# Altium schematic symbol library BWRC.SchLib: 201 symbols (part 4 of 6)
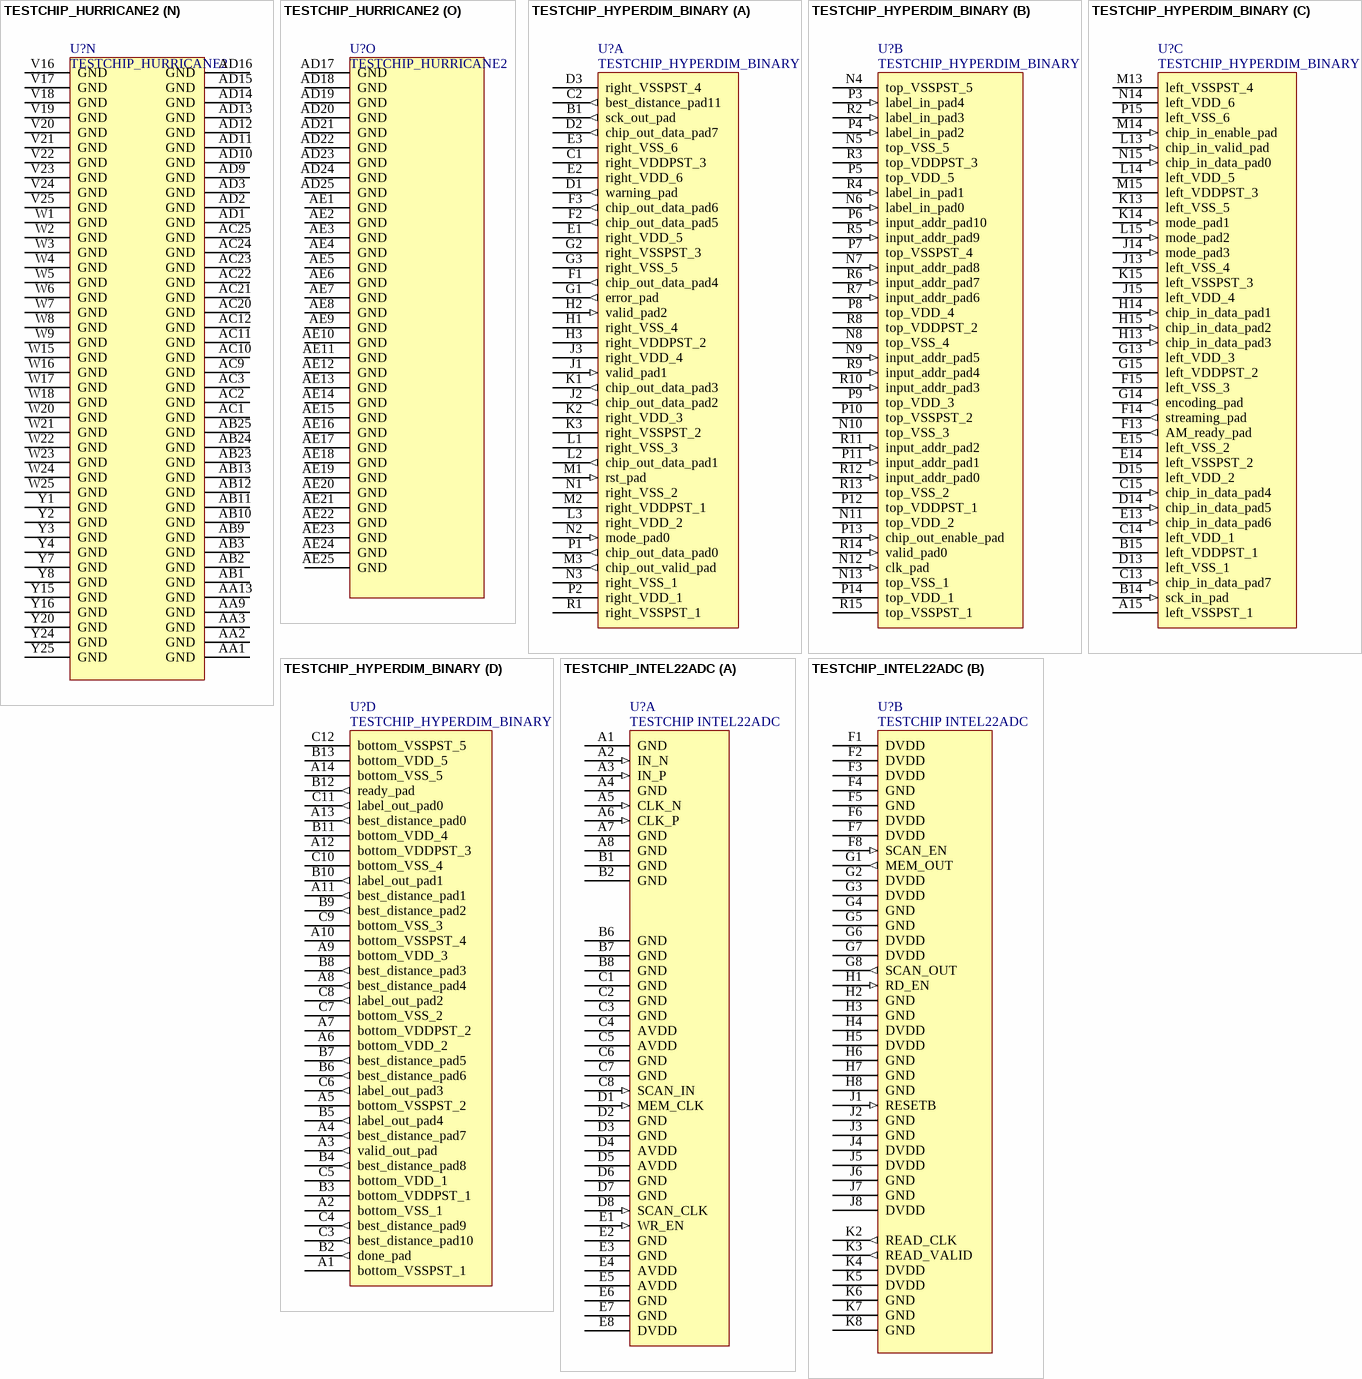
[diagram p34: symbols TESTCHIP_HURRICANE2 to TESTCHIP_INTEL22ADC]

## TESTCHIP_HURRICANE2
designator U?
TESTCHIP HURRICANE2
part A pins: C8 HBWIFIREF[0] (in), C18 HBWIFVCM[0] (in), E12 HBWIFRX_1_P (in), E13 HBWIFRX_1_N (in), F10 HBWIFRX_3_N (in), F11 HBWIFTX_1_P (out), F12 HBWIFTX_1_N (out), F14 HBWIFRX_0_P (in), F15 HBWIFRX_0_N (in), G10 HBWIFRX_3_P (in), G11 HBWIFTX_2_P (out), G12 HBWIFTX_2_N (out), G13 HBWIFTX_0_P (out), G14 HBWIFTX_0_N (out), H10 HBWIFTX_3_P (out), H11 HBWIFTX_3_N (out), H12 HBWIFRX_2_N (in), H13 HBWIFRX_2_P (in)
part B pins: AA8 HBWIFVCM[1] (in), AA10 HBWIFRX_4_P (in), AA11 HBWIFRX_4_N (in), AB6 HBWIFIREF[1] (in), V10 HBWIFTX_4_P (out), V11 HBWIFTX_5_P (out), V12 HBWIFTX_5_N (out), V13 HBWIFRX_7_P (in), V14 HBWIFRX_7_N (in), W10 HBWIFTX_4_N (out), W11 HBWIFRX_5_P (in), W12 HBWIFRX_5_N (in), W13 HBWIFTX_7_P (out), W14 HBWIFTX_7_N (out), Y11 HBWIFTX_6_P (out), Y12 HBWIFTX_6_N (out), Y13 HBWIFRX_6_P (in), Y14 HBWIFRX_6_N (in)
part C pins: C4 JTAG_TDI (in), C5 JTAG_DRV_TDO (out), C6 JTAG_TMS (in), D5 JTAG_TDO (out), E4 JTAG_TCK (in), E5 JTAG_TRST (in)
part D pins: AA5 SERIAL_OUT_BITS[2] (out), AA7 SERIAL_OUT_BITS[3] (out), AB4 SERIAL_OUT_BITS[5] (out), AB5 SERIAL_OUT_BITS[1] (out), AB7 SERIAL_OUT_READY (in), AC5 SERIAL_OUT_BITS[0] (out), AC8 SERIAL_OUT_VALID (out), AD4 SERIAL_OUT_BITS[6] (out), AD6 SERIAL_OUT_BITS[7] (out), AD7 SERIAL_IN_READY (out), AD8 SERIAL_IN_VALID (in), C16 SERIAL_IN_BITS[4] (in), C19 HOST_CLOCK (out), C20 SERIAL_IN_BITS[0] (in), C21 SERIAL_IN_BITS[2] (in), D7 SERIAL_IN_BITS[6] (in), D8 SERIAL_IN_BITS[3] (in), E6 SERIAL_IN_BITS[7] (in), E8 SERIAL_IN_BITS[1] (in), F8 SERIAL_IN_BITS[5] (in), Y5 SERIAL_OUT_BITS[4] (out)
part E pins: AA4 RESET (in), AA6 OUT_VREF_DAC_OUT_0 (out), AB8 MEAS_DCDC_CLKOUT (out), AC4 CLKIN_SLOW_CLK (in), AC7 SYSTEM_CLK_SEL[0] (in), AD5 MEAS_CASSIA_CLKOUT (out), C7 REFS_VREF_1 (in), C17 CLKIN_LVSS (in), D4 SYSTEM_CLK_SEL[1] (in), D6 OUT_VREF_DAC_OUT_1 (out), F4 SYSTEM_CLK_SEL[2] (in), G8 CLKIN_LVDS_1_P (in), G9 CLKIN_LVDS_1_N (in), Y6 REFS_VREF_0 (in), Y9 CLKIN_LVDS_0_N (in), Y10 CLKIN_LVDS_0_P (in)
part F pins: AA18 PAD_MEM_DQS_P[2] (io), AA19 PAD_MEM_DATA[18] (io), AA20 PAD_MEM_DATA[20] (io), AA21 PAD_MEM_BANK[2] (out), AA22 PAD_MEM_BANK[0] (out), AA23 PAD_MEM_ADDRESS[2] (out), AA24 PAD_CAL_0 (in), AA25 PAD_VREFCA (power), AB14 PAD_MEM_DATA[25] (io), AB15 PAD_MEM_DM[3] (io), AB16 PAD_MEM_DATA[27] (io), AB17 PAD_MEM_DATA[19] (io), AB18 PAD_MEM_DATA[17] (io), AB19 PAD_MEM_DQS_P[3] (io), AB20 PAD_MEM_DQS_M[2] (io), AB21 PAD_MEM_WE_N (out), AB22 PAD_MEM_ADDRESS[4] (out), AC13 PAD_VREFDQ[3] (io), AC14 PAD_MEM_DATA[24] (io), AC15 PAD_MEM_DATA[31] (io), AC16 PAD_MEM_DATA[29] (io), AC17 PAD_MEM_DATA[23] (io), AC18 PAD_MEM_DATA[21] (io), AC19 PAD_VREFDQ[2] (io), C22 PAD_MEM_DATA[9] (io), D17 PAD_MEM_DATA[4] (io), D18 PAD_MEM_ADDRESS[7] (out), D19 PAD_MEM_DATA[1] (io), D20 PAD_MEM_DATA[3] (io), D21 PAD_MEM_DATA[7] (io), D22 PAD_MEM_DATA[13] (io), E14 PAD_VREFDQ[0] (io), E18 PAD_MEM_DATA[5] (io), E19 PAD_MEM_DATA[11] (io), E20 PAD_MEM_DQS_M[1] (io), E21 PAD_MEM_DATA[10] (io), E22 PAD_MEM_ADDRESS[9] (out), E23 PAD_MEM_ADDRESS[3] (out), F17 PAD_MEM_DATA[15] (io), F18 PAD_VREFDQ[1] (io), F19 PAD_MEM_DATA[12] (io), F20 PAD_MEM_BANK[1] (out), F21 PAD_MEM_ADDRESS[12] (out), G18 PAD_MEM_DM[1] (io), G19 PAD_MEM_DATA[8] (io), G20 PAD_MEM_ERROR_N[0] (io), G21 PAD_MEM_RAS_N (out), J20 PAD_MEM_DM[0] (io), J21 PAD_MEM_DQS_M[0] (io), K20 PAD_MEM_DQS_P[1] (io), K21 PAD_MEM_DQS_P[0] (io), L20 PAD_MEM_DATA[6] (io), L21 PAD_MEM_DATA[0] (io), L22 PAD_MEM_DATA[2] (io), M20 PAD_MEM_CLK[0] (out), M21 PAD_MEM_CLK_N[0] (out), M22 PAD_MEM_ADDRESS[5] (out), N19 PAD_MEM_ADDRESS[11] (out), N20 PAD_ISOLATION_N (in), N21 PAD_MEM_ADDRESS[1] (out), N22 PAD_MEM_ADDRESS[15] (out), N23 PAD_MEM_DATA[14] (io), P20 PAD_MEM_ADDRESS[8] (out), P21 PAD_MEM_CAS_N (out), P22 PAD_MEM_ADDRESS[13] (out), R23 PAD_MEM_CKE[0] (out), T21 PAD_MEM_DATA[26] (io), T22 PAD_MEM_ADDRESS[14] (out), T23 PAD_MEM_ODT[0] (out), T24 PAD_MEM_CS_N[0] (out), U21 PAD_MEM_DATA[30] (io), U22 PAD_MEM_DATA[28] (io), U23 PAD_MEM_ADDRESS[10] (out), U24 PAD_MEM_RESET_N[0] (out), W19 PAD_MEM_DATA[22] (io), Y17 PAD_MEM_DQS_M[3] (io), Y18 PAD_MEM_DM[2] (io), Y19 PAD_MEM_DATA[16] (io), Y21 PAD_MEM_ADDRESS[0] (out), Y22 PAD_MEM_ADDRESS[6] (out), Y23 PAD_MEM_PARITY_IN (out)
part G pins: C14 VDD_SERDES (power), C15 VDD_SERDES (power), D13 VDD18 (power), D14 VDD18 (power), J4 VDD10 (power), K4 VDD10 (power), L5 VDDLO (power), L6 VDDHI (power), M5 VDDLO (power), M6 VDDHI (power), N6 VDDHI (power), P5 VDDLO (power), P6 VDDHI (power), R4 VDD10 (power), R5 VDDLO (power), T4 VDD10 (power), U4 VDD_SERDES (power), V4 VDD_SERDES (power)
part H pins: AA12 GNDS, AC6 VOUT_ROCKET, E7 VOUT_HWACHA, T5 VDDS, U5 VDDS
part I pins: AA14 VDD18_DDR (power), AA15 VDD18_DDR (power), AA16 VDD10_DDR (power), AA17 VDD10_DDR (power), D15 VDD10_DDR (power), D16 VDD10_DDR (power), E16 VDD18_DDR (power), E17 VDD18_DDR (power)
part J pins: A1 GND (power), A2 GND (power), A3 GND (power), A4 GND (power), A5 GND (power), A6 GND (power), A7 GND (power), A8 GND (power), A9 GND (power), A10 GND (power), A11 GND (power), A12 GND (power), A13 GND (power), A14 GND (power), A15 GND (power), A16 GND (power), A17 GND (power), A18 GND (power), A19 GND (power), A20 GND (power), A21 GND (power), A22 GND (power), A23 GND (power), A24 GND (power), A25 GND (power), B1 GND (power), B2 GND (power), B3 GND (power), B4 GND (power), B5 GND (power), B6 GND (power), B7 GND (power), B8 GND (power), B9 GND (power), B10 GND (power), B11 GND (power), B12 GND (power), B13 GND (power), B14 GND (power), B15 GND (power), B16 GND (power), B17 GND (power), B18 GND (power), B19 GND (power), B20 GND (power), B21 GND (power), B22 GND (power), B23 GND (power), B24 GND (power), B25 GND (power), C1 GND (power), C2 GND (power), C3 GND (power), C9 GND (power), C10 GND (power), C11 GND (power), C12 GND (power), C13 GND (power), C23 GND (power), C24 GND (power), C25 GND (power), D1 GND (power), D2 GND (power), D3 GND (power), D9 GND (power), D10 GND (power), D11 GND (power), D12 GND (power), D23 GND (power), D24 GND (power), D25 GND (power), E1 GND (power), E2 GND (power), E3 GND (power), E9 GND (power), E10 GND (power), E11 GND (power), E15 GND (power), E24 GND (power), E25 GND (power)
part K pins: F1 GND (power), F2 GND (power), F3 GND (power), F5 GND (power), F6 GND (power), F7 GND (power), F9 GND (power), F13 GND (power), F16 GND (power), F22 GND (power), F23 GND (power), F24 GND (power), F25 GND (power), G1 GND (power), G2 GND (power), G3 GND (power), G4 GND (power), G5 GND (power), G6 GND (power), G7 GND (power), G15 GND (power), G16 GND (power), G17 GND (power), G22 GND (power), G23 GND (power), G24 GND (power), G25 GND (power), H1 GND (power), H2 GND (power), H3 GND (power), H4 GND (power), H5 GND (power), H6 GND (power), H7 GND (power), H8 GND (power), H9 GND (power), H14 GND (power), H15 GND (power), H16 GND (power), H17 GND (power), H18 GND (power), H19 GND (power), H20 GND (power), H21 GND (power), H22 GND (power), H23 GND (power), H24 GND (power), H25 GND (power), J1 GND (power), J2 GND (power), J3 GND (power), J5 GND (power), J6 GND (power), J7 GND (power), J8 GND (power), J9 GND (power), J10 GND (power), J11 GND (power), J12 GND (power), J13 GND (power), J14 GND (power), J15 GND (power), J16 GND (power), J17 GND (power), J18 GND (power), J19 GND (power), J22 GND (power), J23 GND (power), J24 GND (power), J25 GND (power), K1 GND (power), K2 GND (power), K3 GND (power), K5 GND (power), K6 GND (power), K7 GND (power), K8 GND (power), K9 GND (power), K10 GND (power), K11 GND (power)
part L pins: K12 GND (power), K13 GND (power), K14 GND (power), K15 GND (power), K16 GND (power), K17 GND (power), K18 GND (power), K19 GND (power), K22 GND (power), K23 GND (power), K24 GND (power), K25 GND (power), L1 GND (power), L2 GND (power), L3 GND (power), L4 GND (power), L7 GND (power), L8 GND (power), L9 GND (power), L10 GND (power), L11 GND (power), L12 GND (power), L13 GND (power), L14 GND (power), L15 GND (power), L16 GND (power), L17 GND (power), L18 GND (power), L19 GND (power), L23 GND (power), L24 GND (power), L25 GND (power), M1 GND (power), M2 GND (power), M3 GND (power), M4 GND (power), M7 GND (power), M8 GND (power), M9 GND (power), M10 GND (power), M11 GND (power), M12 GND (power), M13 GND (power), M14 GND (power), M15 GND (power), M16 GND (power), M17 GND (power), M18 GND (power), M19 GND (power), M23 GND (power), M24 GND (power), M25 GND (power), N1 GND (power), N2 GND (power), N3 GND (power), N4 GND (power), N5 GND (power), N7 GND (power), N8 GND (power), N9 GND (power), N10 GND (power), N11 GND (power), N12 GND (power), N13 GND (power), N14 GND (power), N15 GND (power), N16 GND (power), N17 GND (power), N18 GND (power), N24 GND (power), N25 GND (power), P1 GND (power), P2 GND (power), P3 GND (power), P4 GND (power), P7 GND (power), P8 GND (power), P9 GND (power), P10 GND (power), P11 GND (power)
part M pins: P12 GND (power), P13 GND (power), P14 GND (power), P15 GND (power), P16 GND (power), P17 GND (power), P18 GND (power), P19 GND (power), P23 GND (power), P24 GND (power), P25 GND (power), R1 GND (power), R2 GND (power), R3 GND (power), R6 GND (power), R7 GND (power), R8 GND (power), R9 GND (power), R10 GND (power), R11 GND (power), R12 GND (power), R13 GND (power), R14 GND (power), R15 GND (power), R16 GND (power), R17 GND (power), R18 GND (power), R19 GND (power), R20 GND (power), R21 GND (power), R22 GND (power), R24 GND (power), R25 GND (power), T1 GND (power), T2 GND (power), T3 GND (power), T6 GND (power), T7 GND (power), T8 GND (power), T9 GND (power), T10 GND (power), T11 GND (power), T12 GND (power), T13 GND (power), T14 GND (power), T15 GND (power), T16 GND (power), T17 GND (power), T18 GND (power), T19 GND (power), T20 GND (power), T25 GND (power), U1 GND (power), U2 GND (power), U3 GND (power), U6 GND (power), U7 GND (power), U8 GND (power), U9 GND (power), U10 GND (power), U11 GND (power), U12 GND (power), U13 GND (power), U14 GND (power), U15 GND (power), U16 GND (power), U17 GND (power), U18 GND (power), U19 GND (power), U20 GND (power), U25 GND (power), V1 GND (power), V2 GND (power), V3 GND (power), V5 GND (power), V6 GND (power), V7 GND (power), V8 GND (power), V9 GND (power), V15 GND (power)
part N pins: AA1 GND (power), AA2 GND (power), AA3 GND (power), AA9 GND (power), AA13 GND (power), AB1 GND (power), AB2 GND (power), AB3 GND (power), AB9 GND (power), AB10 GND (power), AB11 GND (power), AB12 GND (power), AB13 GND (power), AB23 GND (power), AB24 GND (power), AB25 GND (power), AC1 GND (power), AC2 GND (power), AC3 GND (power), AC9 GND (power), AC10 GND (power), AC11 GND (power), AC12 GND (power), AC20 GND (power), AC21 GND (power), AC22 GND (power), AC23 GND (power), AC24 GND (power), AC25 GND (power), AD1 GND (power), AD2 GND (power), AD3 GND (power), AD9 GND (power), AD10 GND (power), AD11 GND (power), AD12 GND (power), AD13 GND (power), AD14 GND (power), AD15 GND (power), AD16 GND (power), V16 GND (power), V17 GND (power), V18 GND (power), V19 GND (power), V20 GND (power), V21 GND (power), V22 GND (power), V23 GND (power), V24 GND (power), V25 GND (power), W1 GND (power), W2 GND (power), W3 GND (power), W4 GND (power), W5 GND (power), W6 GND (power), W7 GND (power), W8 GND (power), W9 GND (power), W15 GND (power), W16 GND (power), W17 GND (power), W18 GND (power), W20 GND (power), W21 GND (power), W22 GND (power), W23 GND (power), W24 GND (power), W25 GND (power), Y1 GND (power), Y2 GND (power), Y3 GND (power), Y4 GND (power), Y7 GND (power), Y8 GND (power), Y15 GND (power), Y16 GND (power), Y20 GND (power), Y24 GND (power), Y25 GND (power)
part O pins: AD17 GND (power), AD18 GND (power), AD19 GND (power), AD20 GND (power), AD21 GND (power), AD22 GND (power), AD23 GND (power), AD24 GND (power), AD25 GND (power), AE1 GND (power), AE2 GND (power), AE3 GND (power), AE4 GND (power), AE5 GND (power), AE6 GND (power), AE7 GND (power), AE8 GND (power), AE9 GND (power), AE10 GND (power), AE11 GND (power), AE12 GND (power), AE13 GND (power), AE14 GND (power), AE15 GND (power), AE16 GND (power), AE17 GND (power), AE18 GND (power), AE19 GND (power), AE20 GND (power), AE21 GND (power), AE22 GND (power), AE23 GND (power), AE24 GND (power), AE25 GND (power)

## TESTCHIP_HYPERDIM_BINARY
designator U?
The Binary Hyperdimensional Processor
part A pins: B1 sck_out_pad (out), C1 right_VDDPST_3 (power), C2 best_distance_pad11 (out), D1 warning_pad (out), D2 chip_out_data_pad7 (out), D3 right_VSSPST_4 (power), E1 right_VDD_5 (power), E2 right_VDD_6 (power), E3 right_VSS_6 (power), F1 chip_out_data_pad4 (out), F2 chip_out_data_pad5 (out), F3 chip_out_data_pad6 (out), G1 error_pad (out), G2 right_VSSPST_3 (power), G3 right_VSS_5 (power), H1 right_VSS_4 (power), H2 valid_pad2 (in), H3 right_VDDPST_2 (power), J1 valid_pad1 (in), J2 chip_out_data_pad2 (out), J3 right_VDD_4 (power), K1 chip_out_data_pad3 (out), K2 right_VDD_3 (power), K3 right_VSSPST_2 (power), L1 right_VSS_3 (power), L2 chip_out_data_pad1 (out), L3 right_VDD_2 (power), M1 rst_pad (in), M2 right_VDDPST_1 (power), M3 chip_out_valid_pad (out), N1 right_VSS_2 (power), N2 mode_pad0 (in), N3 right_VSS_1 (power), P1 chip_out_data_pad0 (out), P2 right_VDD_1 (power), R1 right_VSSPST_1 (power)
part B pins: N4 top_VSSPST_5 (power), N5 top_VSS_5 (power), N6 label_in_pad0 (in), N7 input_addr_pad8 (in), N8 top_VSS_4 (power), N9 input_addr_pad5 (in), N10 top_VSS_3 (power), N11 top_VDD_2 (power), N12 clk_pad (in), N13 top_VSS_1 (power), P3 label_in_pad4 (in), P4 label_in_pad2 (in), P5 top_VDD_5 (power), P6 input_addr_pad10 (in), P7 top_VSSPST_4 (power), P8 top_VDD_4 (power), P9 top_VDD_3 (power), P10 top_VSSPST_2 (power), P11 input_addr_pad1 (in), P12 top_VDDPST_1 (power), P13 chip_out_enable_pad (in), P14 top_VDD_1 (power), R2 label_in_pad3 (in), R3 top_VDDPST_3 (power), R4 label_in_pad1 (in), R5 input_addr_pad9 (in), R6 input_addr_pad7 (in), R7 input_addr_pad6 (in), R8 top_VDDPST_2 (power), R9 input_addr_pad4 (in), R10 input_addr_pad3 (in), R11 input_addr_pad2 (in), R12 input_addr_pad0 (in), R13 top_VSS_2 (power), R14 valid_pad0 (in), R15 top_VSSPST_1 (power)
part C pins: A15 left_VSSPST_1 (power), B14 sck_in_pad (in), B15 left_VDDPST_1 (power), C13 chip_in_data_pad7 (in), C14 left_VDD_1 (power), C15 chip_in_data_pad4 (in), D13 left_VSS_1 (power), D14 chip_in_data_pad5 (in), D15 left_VDD_2 (power), E13 chip_in_data_pad6 (in), E14 left_VSSPST_2 (power), E15 left_VSS_2 (power), F13 AM_ready_pad (out), F14 streaming_pad (out), F15 left_VSS_3 (power), G13 left_VDD_3 (power), G14 encoding_pad (out), G15 left_VDDPST_2 (power), H13 chip_in_data_pad3 (in), H14 chip_in_data_pad1 (in), H15 chip_in_data_pad2 (in), J13 left_VSS_4 (power), J14 mode_pad3 (in), J15 left_VDD_4 (power), K13 left_VSS_5 (power), K14 mode_pad1 (in), K15 left_VSSPST_3 (power), L13 chip_in_valid_pad (in), L14 left_VDD_5 (power), L15 mode_pad2 (in), M13 left_VSSPST_4 (power), M14 chip_in_enable_pad (in), M15 left_VDDPST_3 (power), N14 left_VDD_6 (power), N15 chip_in_data_pad0 (in), P15 left_VSS_6 (power)
part D pins: A1 bottom_VSSPST_1 (power), A2 bottom_VSS_1 (power), A3 valid_out_pad (out), A4 best_distance_pad7 (out), A5 bottom_VSSPST_2 (power), A6 bottom_VDD_2 (power), A7 bottom_VDDPST_2 (power), A8 best_distance_pad4 (out), A9 bottom_VDD_3 (power), A10 bottom_VSSPST_4 (power), A11 best_distance_pad1 (out), A12 bottom_VDDPST_3 (power), A13 best_distance_pad0 (out), A14 bottom_VSS_5 (power), B2 done_pad (out), B3 bottom_VDDPST_1 (power), B4 best_distance_pad8 (out), B5 label_out_pad4 (out), B6 best_distance_pad6 (out), B7 best_distance_pad5 (out), B8 best_distance_pad3 (out), B9 best_distance_pad2 (out), B10 label_out_pad1 (out), B11 bottom_VDD_4 (power), B12 ready_pad (out), B13 bottom_VDD_5 (power), C3 best_distance_pad10 (out), C4 best_distance_pad9 (out), C5 bottom_VDD_1 (power), C6 label_out_pad3 (out), C7 bottom_VSS_2 (power), C8 label_out_pad2 (out), C9 bottom_VSS_3 (power), C10 bottom_VSS_4 (power), C11 label_out_pad0 (out), C12 bottom_VSSPST_5 (power)

## TESTCHIP_INTEL22ADC
designator U?, comment TESTCHIP INTEL22ADC
part A pins: A1 GND (power) "ground", A2 IN_N (in) "adc data input", A3 IN_P (in) "adc data input", A4 GND (power) "ground", A5 CLK_N (in) "clk recovery input", A6 CLK_P (in) "clk recovery input", A7 GND (power) "ground", A8 GND (power) "ground", B1 GND (power) "ground", B2 GND (power) "ground", B6 GND (power) "ground", B7 GND (power) "ground", B8 GND (power) "ground", C1 GND (power) "ground", C2 GND (power) "ground", C3 GND (power) "ground", C4 AVDD (power) "analog vdd", C5 AVDD (power) "analog vdd", C6 GND (power) "ground", C7 GND (power) "ground", C8 SCAN_IN (in) "scan chain input, adc control bits", D1 MEM_CLK (in) "readout clk", D2 GND (power) "ground", D3 GND (power) "ground", D4 AVDD (power) "analog vdd", D5 AVDD (power) "analog vdd", D6 GND (power) "ground", D7 GND (power) "ground", D8 SCAN_CLK (in) "scan chain clock", E1 WR_EN (in) "write enable", E2 GND (power) "ground", E3 GND (power) "ground", E4 AVDD (power) "analog vdd", E5 AVDD (power) "analog vdd", E6 GND (power) "ground", E7 GND (power) "ground", E8 DVDD (power) "digital vdd"
part B pins: F1 DVDD (power) "digital vdd", F2 DVDD (power) "digital vdd", F3 DVDD (power) "digital vdd", F4 GND (power) "ground", F5 GND (power) "ground", F6 DVDD (power) "digital vdd", F7 DVDD (power) "digital vdd", F8 SCAN_EN (in) "scan chain enable", G1 MEM_OUT (out) "readout data", G2 DVDD (power) "digital vdd", G3 DVDD (power) "digital vdd", G4 GND (power) "ground", G5 GND (power) "ground", G6 DVDD (power) "digital vdd", G7 DVDD (power) "digital vdd", G8 SCAN_OUT (out) "scan chain output", H1 RD_EN (in) "memory read enable", H2 GND (power) "ground", H3 GND (power) "ground", H4 DVDD (power) "digital vdd", H5 DVDD (power) "digital vdd", H6 GND (power) "ground", H7 GND (power) "ground", H8 GND (power) "ground", J1 RESETB (in) "memory reset signal", J2 GND (power) "ground", J3 GND (power) "ground", J4 DVDD (power) "digital vdd", J5 DVDD (power) "digital vdd", J6 GND (power) "ground", J7 GND (power) "ground", J8 DVDD (power) "digital vdd", K2 READ_CLK (out) "memory clock output", K3 READ_VALID (out) "readout data valid", K4 DVDD (power) "digital vdd", K5 DVDD (power) "digital vdd", K6 GND (power) "ground", K7 GND (power) "ground", K8 GND (power) "ground"

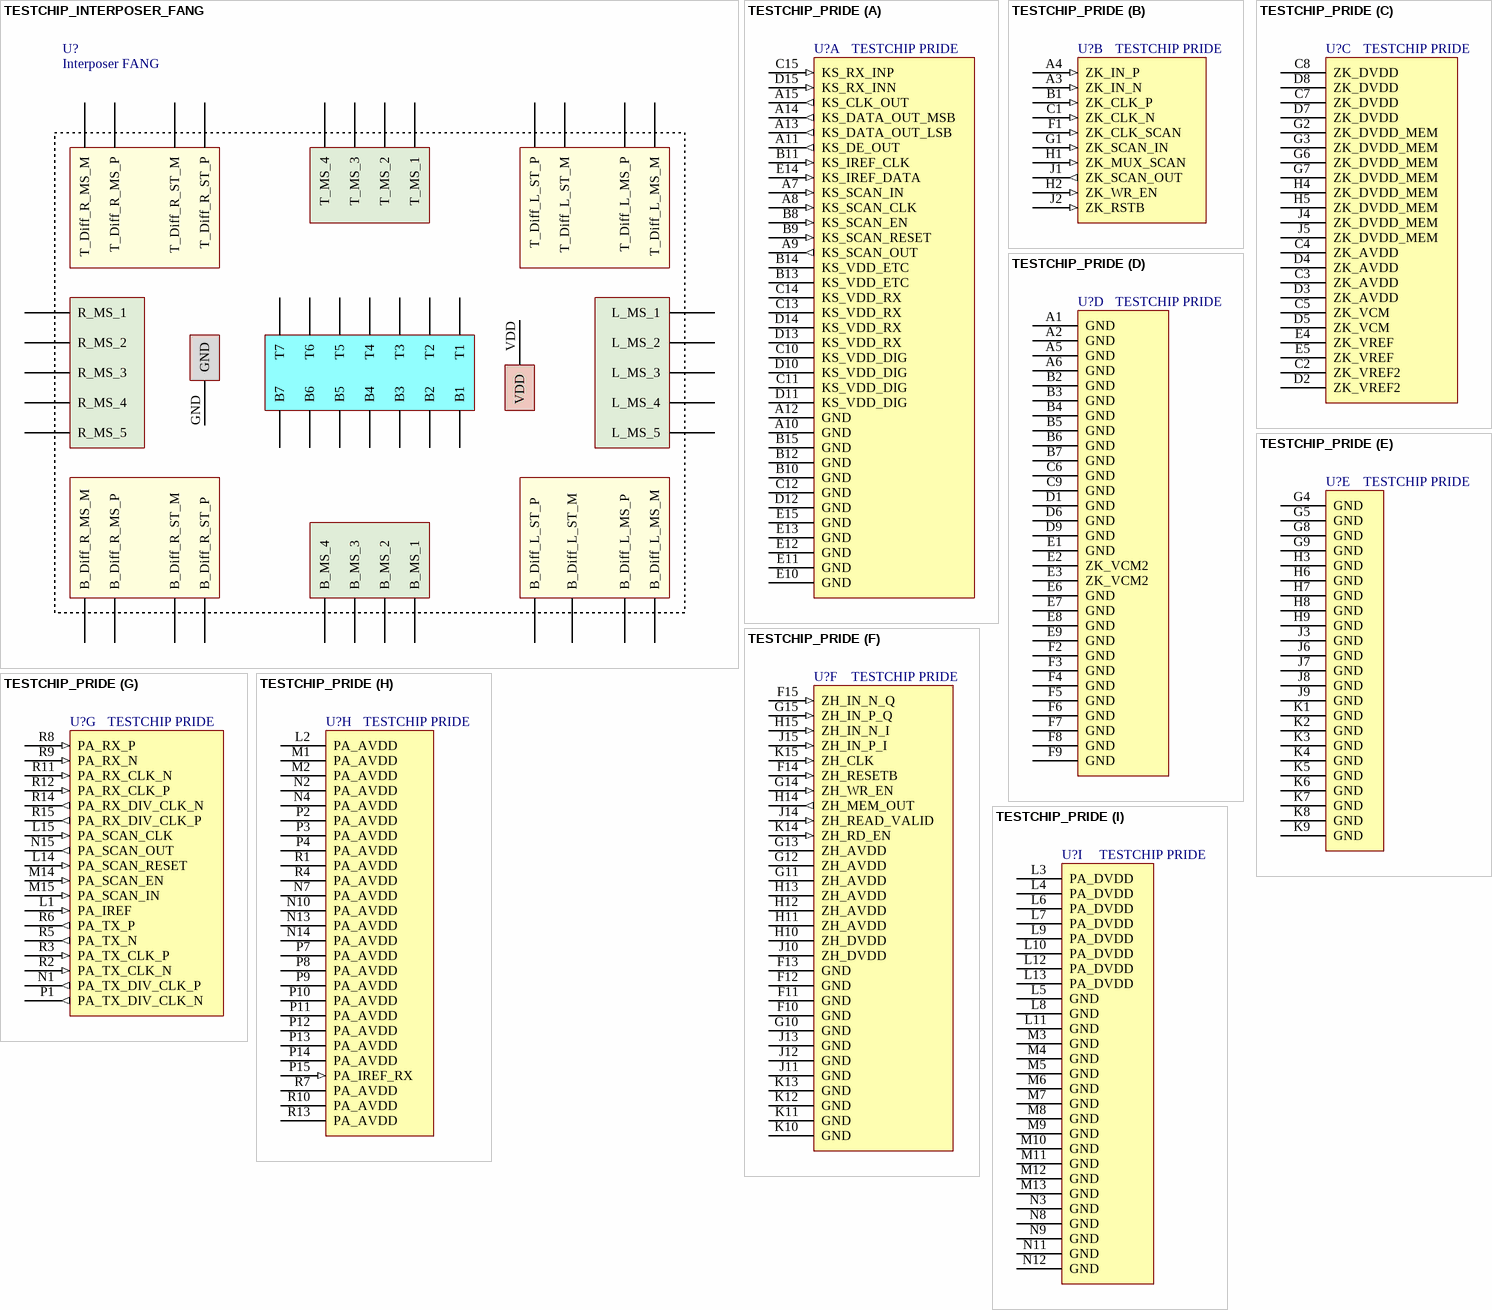
[diagram p19: symbols TESTCHIP_INTERPOSER_FANG to TESTCHIP_PRIDE]

## TESTCHIP_INTERPOSER_FANG
designator U?, comment Interposer FANG
BGA package (FANG_LNA or FANG_LO)
pins: B1, B2, B3, B4, B5, B6, B7, B_Diff_L_MS_M, B_Diff_L_MS_P, B_Diff_L_ST_M, B_Diff_L_ST_P, B_Diff_R_MS_M, B_Diff_R_MS_P, B_Diff_R_ST_M, B_Diff_R_ST_P, B_MS_1, B_MS_2, B_MS_3, B_MS_4, GND (power), L_MS_1, L_MS_2, L_MS_3, L_MS_4, L_MS_5, R_MS_1, R_MS_2, R_MS_3, R_MS_4, R_MS_5, T1, T2, T3, T4, T5, T6, T7, T_Diff_L_MS_M, T_Diff_L_MS_P, T_Diff_L_ST_M, T_Diff_L_ST_P, T_Diff_R_MS_M, T_Diff_R_MS_P, T_Diff_R_ST_M, T_Diff_R_ST_P, T_MS_1, T_MS_2, T_MS_3, T_MS_4, VDD

## TESTCHIP_PRIDE
designator U?, comment TESTCHIP PRIDE
footprint TESTCHIP_PRIDE
part A pins: A7 KS_SCAN_IN (in), A8 KS_SCAN_CLK (in), A9 KS_SCAN_OUT (out), A10 GND (power), A11 KS_DE_OUT (out), A12 GND (power), A13 KS_DATA_OUT_LSB (out), A14 KS_DATA_OUT_MSB (out), A15 KS_CLK_OUT (out), B8 KS_SCAN_EN (in), B9 KS_SCAN_RESET (in), B10 GND (power), B11 KS_IREF_CLK (in), B12 GND (power), B13 KS_VDD_ETC (power), B14 KS_VDD_ETC (power), B15 GND (power), C10 KS_VDD_DIG (power), C11 KS_VDD_DIG (power), C12 GND (power), C13 KS_VDD_RX (power), C14 KS_VDD_RX (power), C15 KS_RX_INP (in), D10 KS_VDD_DIG (power), D11 KS_VDD_DIG (power), D12 GND (power), D13 KS_VDD_RX (power), D14 KS_VDD_RX (power), D15 KS_RX_INN (in), E10 GND (power), E11 GND (power), E12 GND (power), E13 GND (power), E14 KS_IREF_DATA (in), E15 GND (power)
part B pins: A3 ZK_IN_N (in), A4 ZK_IN_P (in), B1 ZK_CLK_P (in), C1 ZK_CLK_N (in), F1 ZK_CLK_SCAN (in), G1 ZK_SCAN_IN (in), H1 ZK_MUX_SCAN (in), H2 ZK_WR_EN (in), J1 ZK_SCAN_OUT (out), J2 ZK_RSTB (in)
part C pins: C2 ZK_VREF2 (power), C3 ZK_AVDD (power), C4 ZK_AVDD (power), C5 ZK_VCM (power), C7 ZK_DVDD (power), C8 ZK_DVDD (power), D2 ZK_VREF2 (power), D3 ZK_AVDD (power), D4 ZK_AVDD (power), D5 ZK_VCM (power), D7 ZK_DVDD (power), D8 ZK_DVDD (power), E4 ZK_VREF (power), E5 ZK_VREF (power), G2 ZK_DVDD_MEM (power), G3 ZK_DVDD_MEM (power), G6 ZK_DVDD_MEM (power), G7 ZK_DVDD_MEM (power), H4 ZK_DVDD_MEM (power), H5 ZK_DVDD_MEM (power), J4 ZK_DVDD_MEM (power), J5 ZK_DVDD_MEM (power)
part D pins: A1 GND (power), A2 GND (power), A5 GND (power), A6 GND (power), B2 GND (power), B3 GND (power), B4 GND (power), B5 GND (power), B6 GND (power), B7 GND (power), C6 GND (power), C9 GND (power), D1 GND (power), D6 GND (power), D9 GND (power), E1 GND (power), E2 ZK_VCM2 (power), E3 ZK_VCM2 (power), E6 GND (power), E7 GND (power), E8 GND (power), E9 GND (power), F2 GND (power), F3 GND (power), F4 GND (power), F5 GND (power), F6 GND (power), F7 GND (power), F8 GND (power), F9 GND (power)
part E pins: G4 GND (power), G5 GND (power), G8 GND (power), G9 GND (power), H3 GND (power), H6 GND (power), H7 GND (power), H8 GND (power), H9 GND (power), J3 GND (power), J6 GND (power), J7 GND (power), J8 GND (power), J9 GND (power), K1 GND (power), K2 GND (power), K3 GND (power), K4 GND (power), K5 GND (power), K6 GND (power), K7 GND (power), K8 GND (power), K9 GND (power)
part F pins: F10 GND (power), F11 GND (power), F12 GND (power), F13 GND (power), F14 ZH_RESETB (in), F15 ZH_IN_N_Q (in), G10 GND (power), G11 ZH_AVDD (power), G12 ZH_AVDD (power), G13 ZH_AVDD (power), G14 ZH_WR_EN (in), G15 ZH_IN_P_Q (in), H10 ZH_DVDD (power), H11 ZH_AVDD (power), H12 ZH_AVDD (power), H13 ZH_AVDD (power), H14 ZH_MEM_OUT (out), H15 ZH_IN_N_I (in), J10 ZH_DVDD (power), J11 GND (power), J12 GND (power), J13 GND (power), J14 ZH_READ_VALID (in), J15 ZH_IN_P_I (in), K10 GND (power), K11 GND (power), K12 GND (power), K13 GND (power), K14 ZH_RD_EN (in), K15 ZH_CLK (in)
part G pins: L1 PA_IREF (in), L14 PA_SCAN_RESET (in), L15 PA_SCAN_CLK (in), M14 PA_SCAN_EN (in), M15 PA_SCAN_IN (in), N1 PA_TX_DIV_CLK_P (out), N15 PA_SCAN_OUT (out), P1 PA_TX_DIV_CLK_N (out), R2 PA_TX_CLK_N (in), R3 PA_TX_CLK_P (in), R5 PA_TX_N (out), R6 PA_TX_P (out), R8 PA_RX_P (in), R9 PA_RX_N (in), R11 PA_RX_CLK_N (in), R12 PA_RX_CLK_P (in), R14 PA_RX_DIV_CLK_N (out), R15 PA_RX_DIV_CLK_P (out)
part H pins: L2 PA_AVDD (power), M1 PA_AVDD (power), M2 PA_AVDD (power), N2 PA_AVDD (power), N4 PA_AVDD (power), N7 PA_AVDD (power), N10 PA_AVDD (power), N13 PA_AVDD (power), N14 PA_AVDD (power), P2 PA_AVDD (power), P3 PA_AVDD (power), P4 PA_AVDD (power), P7 PA_AVDD (power), P8 PA_AVDD (power), P9 PA_AVDD (power), P10 PA_AVDD (power), P11 PA_AVDD (power), P12 PA_AVDD (power), P13 PA_AVDD (power), P14 PA_AVDD (power), P15 PA_IREF_RX (in), R1 PA_AVDD (power), R4 PA_AVDD (power), R7 PA_AVDD (power), R10 PA_AVDD (power), R13 PA_AVDD (power)
part I pins: L3 PA_DVDD (power), L4 PA_DVDD (power), L5 GND (power), L6 PA_DVDD (power), L7 PA_DVDD (power), L8 GND (power), L9 PA_DVDD (power), L10 PA_DVDD (power), L11 GND (power), L12 PA_DVDD (power), L13 PA_DVDD (power), M3 GND (power), M4 GND (power), M5 GND (power), M6 GND (power), M7 GND (power), M8 GND (power), M9 GND (power), M10 GND (power), M11 GND (power), M12 GND (power), M13 GND (power), N3 GND (power), N8 GND (power), N9 GND (power), N11 GND (power), N12 GND (power)

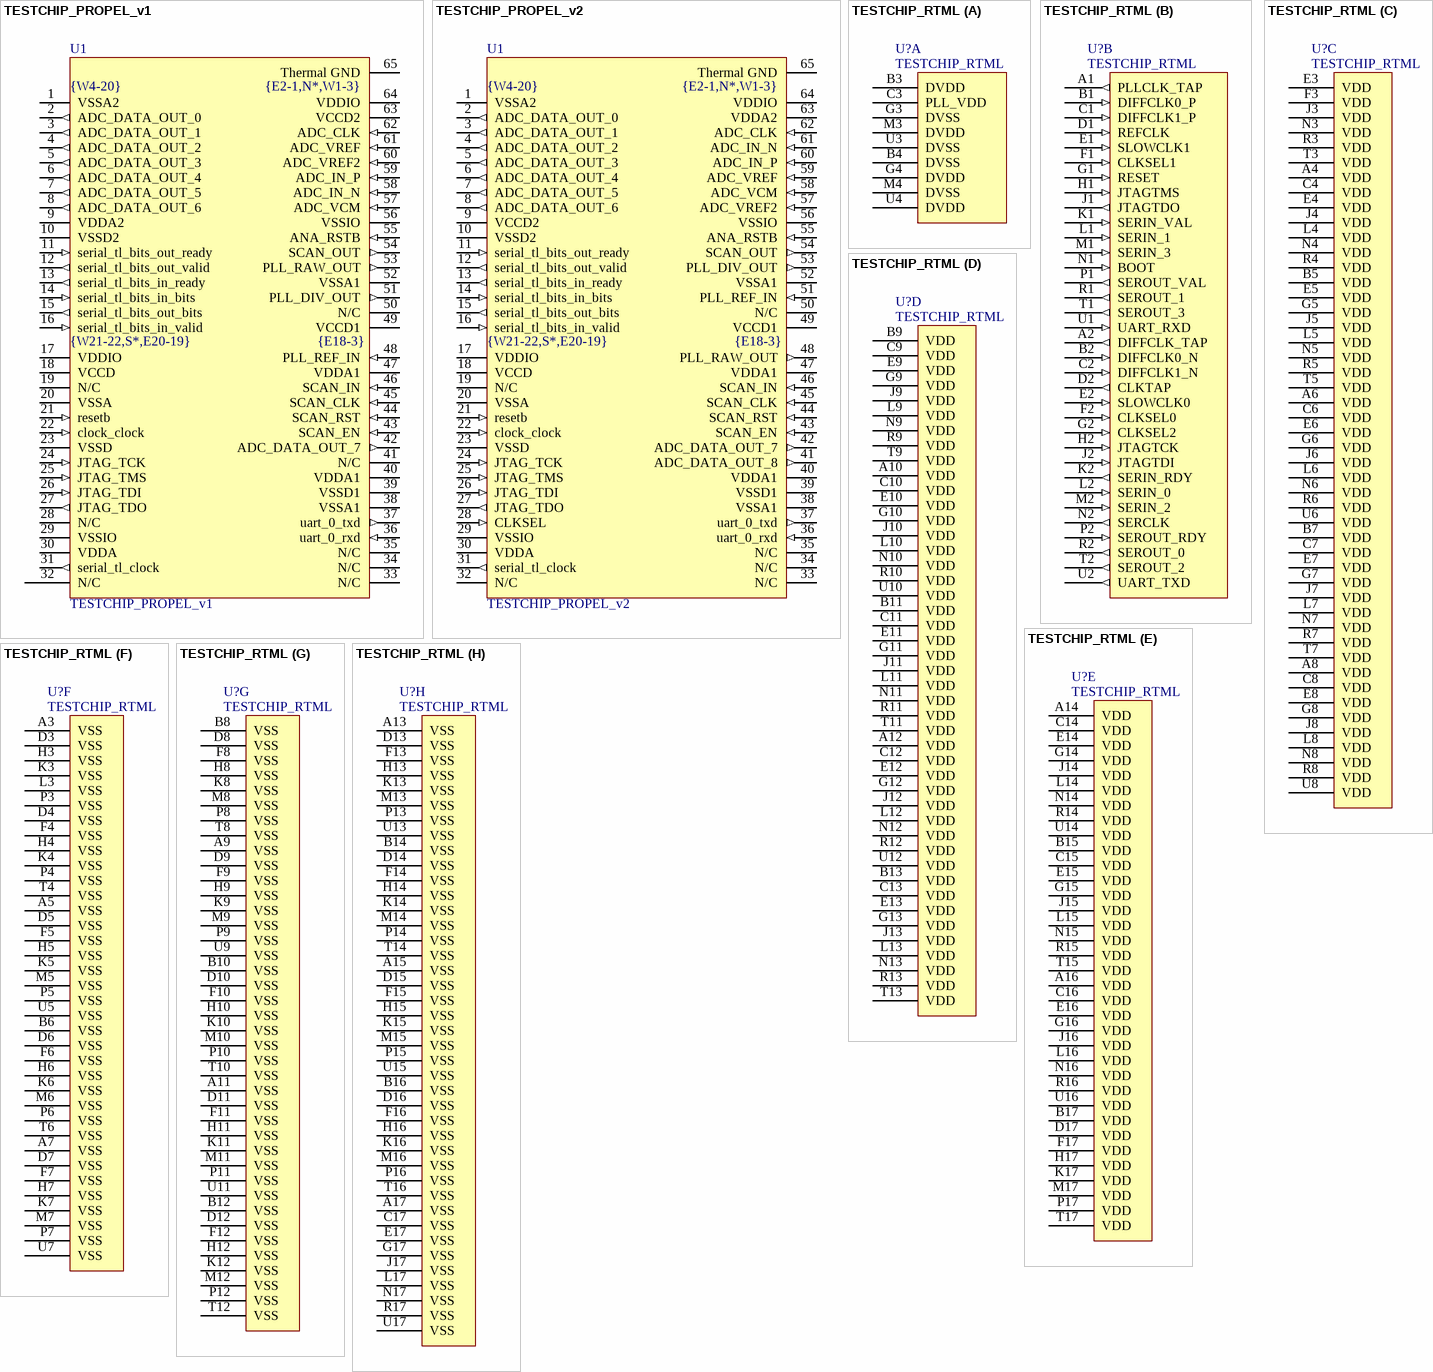
[diagram p20: symbols TESTCHIP_PROPEL_v1 to TESTCHIP_RTML]

## TESTCHIP_PROPEL_v1
designator U1
TESTCHIP PROPEL v1
pins: 1 VSSA2 (power), 2 ADC_DATA_OUT_0 (out), 3 ADC_DATA_OUT_1 (out), 4 ADC_DATA_OUT_2 (out), 5 ADC_DATA_OUT_3 (out), 6 ADC_DATA_OUT_4 (out), 7 ADC_DATA_OUT_5 (out), 8 ADC_DATA_OUT_6 (out), 9 VDDA2 (power), 10 VSSD2 (power), 11 serial_tl_bits_out_ready (in), 12 serial_tl_bits_out_valid (out), 13 serial_tl_bits_in_ready (out), 14 serial_tl_bits_in_bits (in), 15 serial_tl_bits_out_bits (out), 16 serial_tl_bits_in_valid (in), 17 VDDIO (power), 18 VCCD (power), 19 N/C, 20 VSSA (power), 21 resetb (in), 22 clock_clock (in), 23 VSSD (power), 24 JTAG_TCK (in), 25 JTAG_TMS (in), 26 JTAG_TDI (in), 27 JTAG_TDO (out), 28 N/C, 29 VSSIO (power), 30 VDDA (power), 31 serial_tl_clock (out), 32 N/C, 33 N/C, 34 N/C, 35 N/C, 36 uart_0_rxd (in), 37 uart_0_txd (out), 38 VSSA1 (power), 39 VSSD1 (power), 40 VDDA1 (power), 41 N/C, 42 ADC_DATA_OUT_7 (out), 43 SCAN_EN (in), 44 SCAN_RST (in), 45 SCAN_CLK (in), 46 SCAN_IN (in), 47 VDDA1 (power), 48 PLL_REF_IN (in), 49 VCCD1 (power), 50 N/C, 51 PLL_DIV_OUT (out), 52 VSSA1 (power), 53 PLL_RAW_OUT (out), 54 SCAN_OUT (out), 55 ANA_RSTB (in), 56 VSSIO (power), 57 ADC_VCM (in), 58 ADC_IN_N (in), 59 ADC_IN_P (in), 60 ADC_VREF2 (in), 61 ADC_VREF (in), 62 ADC_CLK (in), 63 VCCD2 (power), 64 VDDIO (power), 65 Thermal GND (power) "Thermal Ground Pad"
text: {W4-20}; {E2-1,N*,W1-3}; {W21-22,S*,E20-19}; {E18-3}

## TESTCHIP_PROPEL_v2
designator U1
TESTCHIP PROPEL v2
pins: 1 VSSA2 (power), 2 ADC_DATA_OUT_0 (out), 3 ADC_DATA_OUT_1 (out), 4 ADC_DATA_OUT_2 (out), 5 ADC_DATA_OUT_3 (out), 6 ADC_DATA_OUT_4 (out), 7 ADC_DATA_OUT_5 (out), 8 ADC_DATA_OUT_6 (out), 9 VCCD2 (power), 10 VSSD2 (power), 11 serial_tl_bits_out_ready (in), 12 serial_tl_bits_out_valid (out), 13 serial_tl_bits_in_ready (out), 14 serial_tl_bits_in_bits (in), 15 serial_tl_bits_out_bits (out), 16 serial_tl_bits_in_valid (in), 17 VDDIO (power), 18 VCCD (power), 19 N/C, 20 VSSA (power), 21 resetb (in), 22 clock_clock (in), 23 VSSD (power), 24 JTAG_TCK (in), 25 JTAG_TMS (in), 26 JTAG_TDI (in), 27 JTAG_TDO (out), 28 CLKSEL (in), 29 VSSIO (power), 30 VDDA (power), 31 serial_tl_clock (out), 32 N/C, 33 N/C, 34 N/C, 35 N/C, 36 uart_0_rxd (in), 37 uart_0_txd (out), 38 VSSA1 (power), 39 VSSD1 (power), 40 VDDA1 (power), 41 ADC_DATA_OUT_8 (out), 42 ADC_DATA_OUT_7 (out), 43 SCAN_EN (in), 44 SCAN_RST (in), 45 SCAN_CLK (in), 46 SCAN_IN (in), 47 VDDA1 (power), 48 PLL_RAW_OUT (out), 49 VCCD1 (power), 50 N/C, 51 PLL_REF_IN (in), 52 VSSA1 (power), 53 PLL_DIV_OUT (out), 54 SCAN_OUT (out), 55 ANA_RSTB (in), 56 VSSIO (power), 57 ADC_VREF2 (in), 58 ADC_VCM (in), 59 ADC_VREF (in), 60 ADC_IN_P (in), 61 ADC_IN_N (in), 62 ADC_CLK (in), 63 VDDA2 (power), 64 VDDIO (power), 65 Thermal GND (power) "Thermal Ground Pad"
text: {W4-20}; {E2-1,N*,W1-3}; {W21-22,S*,E20-19}; {E18-3}

## TESTCHIP_RTML
designator U?
TESTCHIP RTML (die bumps)
part A pins: B3 DVDD (power), B4 DVSS (power), C3 PLL_VDD (power), G3 DVSS (power), G4 DVDD (power), M3 DVDD (power), M4 DVSS (power), U3 DVSS (power), U4 DVDD (power)
part B pins: A1 PLLCLK_TAP (out), A2 DIFFCLK_TAP (out), B1 DIFFCLK0_P (in), B2 DIFFCLK0_N (in), C1 DIFFCLK1_P (in), C2 DIFFCLK1_N (in), D1 REFCLK (in), D2 CLKTAP (out), E1 SLOWCLK1 (in), E2 SLOWCLK0 (in), F1 CLKSEL1 (in), F2 CLKSEL0 (in), G1 RESET (in), G2 CLKSEL2 (in), H1 JTAGTMS (in), H2 JTAGTCK (in), J1 JTAGTDO (out), J2 JTAGTDI (in), K1 SERIN_VAL (in), K2 SERIN_RDY (out), L1 SERIN_1 (in), L2 SERIN_0 (in), M1 SERIN_3 (in), M2 SERIN_2 (in), N1 BOOT (in), N2 SERCLK (out), P1 SEROUT_VAL (out), P2 SEROUT_RDY (in), R1 SEROUT_1 (out), R2 SEROUT_0 (out), T1 SEROUT_3 (out), T2 SEROUT_2 (out), U1 UART_RXD (in), U2 UART_TXD (out)
part C pins: A4 VDD (power), A6 VDD (power), A8 VDD (power), B5 VDD (power), B7 VDD (power), C4 VDD (power), C6 VDD (power), C7 VDD (power), C8 VDD (power), E3 VDD (power), E4 VDD (power), E5 VDD (power), E6 VDD (power), E7 VDD (power), E8 VDD (power), F3 VDD (power), G5 VDD (power), G6 VDD (power), G7 VDD (power), G8 VDD (power), J3 VDD (power), J4 VDD (power), J5 VDD (power), J6 VDD (power), J7 VDD (power), J8 VDD (power), L4 VDD (power), L5 VDD (power), L6 VDD (power), L7 VDD (power), L8 VDD (power), N3 VDD (power), N4 VDD (power), N5 VDD (power), N6 VDD (power), N7 VDD (power), N8 VDD (power), R3 VDD (power), R4 VDD (power), R5 VDD (power), R6 VDD (power), R7 VDD (power), R8 VDD (power), T3 VDD (power), T5 VDD (power), T7 VDD (power), U6 VDD (power), U8 VDD (power)
part D pins: A10 VDD (power), A12 VDD (power), B9 VDD (power), B11 VDD (power), B13 VDD (power), C9 VDD (power), C10 VDD (power), C11 VDD (power), C12 VDD (power), C13 VDD (power), E9 VDD (power), E10 VDD (power), E11 VDD (power), E12 VDD (power), E13 VDD (power), G9 VDD (power), G10 VDD (power), G11 VDD (power), G12 VDD (power), G13 VDD (power), J9 VDD (power), J10 VDD (power), J11 VDD (power), J12 VDD (power), J13 VDD (power), L9 VDD (power), L10 VDD (power), L11 VDD (power), L12 VDD (power), L13 VDD (power), N9 VDD (power), N10 VDD (power), N11 VDD (power), N12 VDD (power), N13 VDD (power), R9 VDD (power), R10 VDD (power), R11 VDD (power), R12 VDD (power), R13 VDD (power), T9 VDD (power), T11 VDD (power), T13 VDD (power), U10 VDD (power), U12 VDD (power)
part E pins: A14 VDD (power), A16 VDD (power), B15 VDD (power), B17 VDD (power), C14 VDD (power), C15 VDD (power), C16 VDD (power), D17 VDD (power), E14 VDD (power), E15 VDD (power), E16 VDD (power), F17 VDD (power), G14 VDD (power), G15 VDD (power), G16 VDD (power), H17 VDD (power), J14 VDD (power), J15 VDD (power), J16 VDD (power), K17 VDD (power), L14 VDD (power), L15 VDD (power), L16 VDD (power), M17 VDD (power), N14 VDD (power), N15 VDD (power), N16 VDD (power), P17 VDD (power), R14 VDD (power), R15 VDD (power), R16 VDD (power), T15 VDD (power), T17 VDD (power), U14 VDD (power), U16 VDD (power)
part F pins: A3 VSS (power), A5 VSS (power), A7 VSS (power), B6 VSS (power), D3 VSS (power), D4 VSS (power), D5 VSS (power), D6 VSS (power), D7 VSS (power), F4 VSS (power), F5 VSS (power), F6 VSS (power), F7 VSS (power), H3 VSS (power), H4 VSS (power), H5 VSS (power), H6 VSS (power), H7 VSS (power), K3 VSS (power), K4 VSS (power), K5 VSS (power), K6 VSS (power), K7 VSS (power), L3 VSS (power), M5 VSS (power), M6 VSS (power), M7 VSS (power), P3 VSS (power), P4 VSS (power), P5 VSS (power), P6 VSS (power), P7 VSS (power), T4 VSS (power), T6 VSS (power), U5 VSS (power), U7 VSS (power)
part G pins: A9 VSS (power), A11 VSS (power), B8 VSS (power), B10 VSS (power), B12 VSS (power), D8 VSS (power), D9 VSS (power), D10 VSS (power), D11 VSS (power), D12 VSS (power), F8 VSS (power), F9 VSS (power), F10 VSS (power), F11 VSS (power), F12 VSS (power), H8 VSS (power), H9 VSS (power), H10 VSS (power), H11 VSS (power), H12 VSS (power), K8 VSS (power), K9 VSS (power), K10 VSS (power), K11 VSS (power), K12 VSS (power), M8 VSS (power), M9 VSS (power), M10 VSS (power), M11 VSS (power), M12 VSS (power), P8 VSS (power), P9 VSS (power), P10 VSS (power), P11 VSS (power), P12 VSS (power), T8 VSS (power), T10 VSS (power), T12 VSS (power), U9 VSS (power), U11 VSS (power)
part H pins: A13 VSS (power), A15 VSS (power), A17 VSS (power), B14 VSS (power), B16 VSS (power), C17 VSS (power), D13 VSS (power), D14 VSS (power), D15 VSS (power), D16 VSS (power), E17 VSS (power), F13 VSS (power), F14 VSS (power), F15 VSS (power), F16 VSS (power), G17 VSS (power), H13 VSS (power), H14 VSS (power), H15 VSS (power), H16 VSS (power), J17 VSS (power), K13 VSS (power), K14 VSS (power), K15 VSS (power), K16 VSS (power), L17 VSS (power), M13 VSS (power), M14 VSS (power), M15 VSS (power), M16 VSS (power), N17 VSS (power), P13 VSS (power), P14 VSS (power), P15 VSS (power), P16 VSS (power), R17 VSS (power), T14 VSS (power), T16 VSS (power), U13 VSS (power), U15 VSS (power), U17 VSS (power)

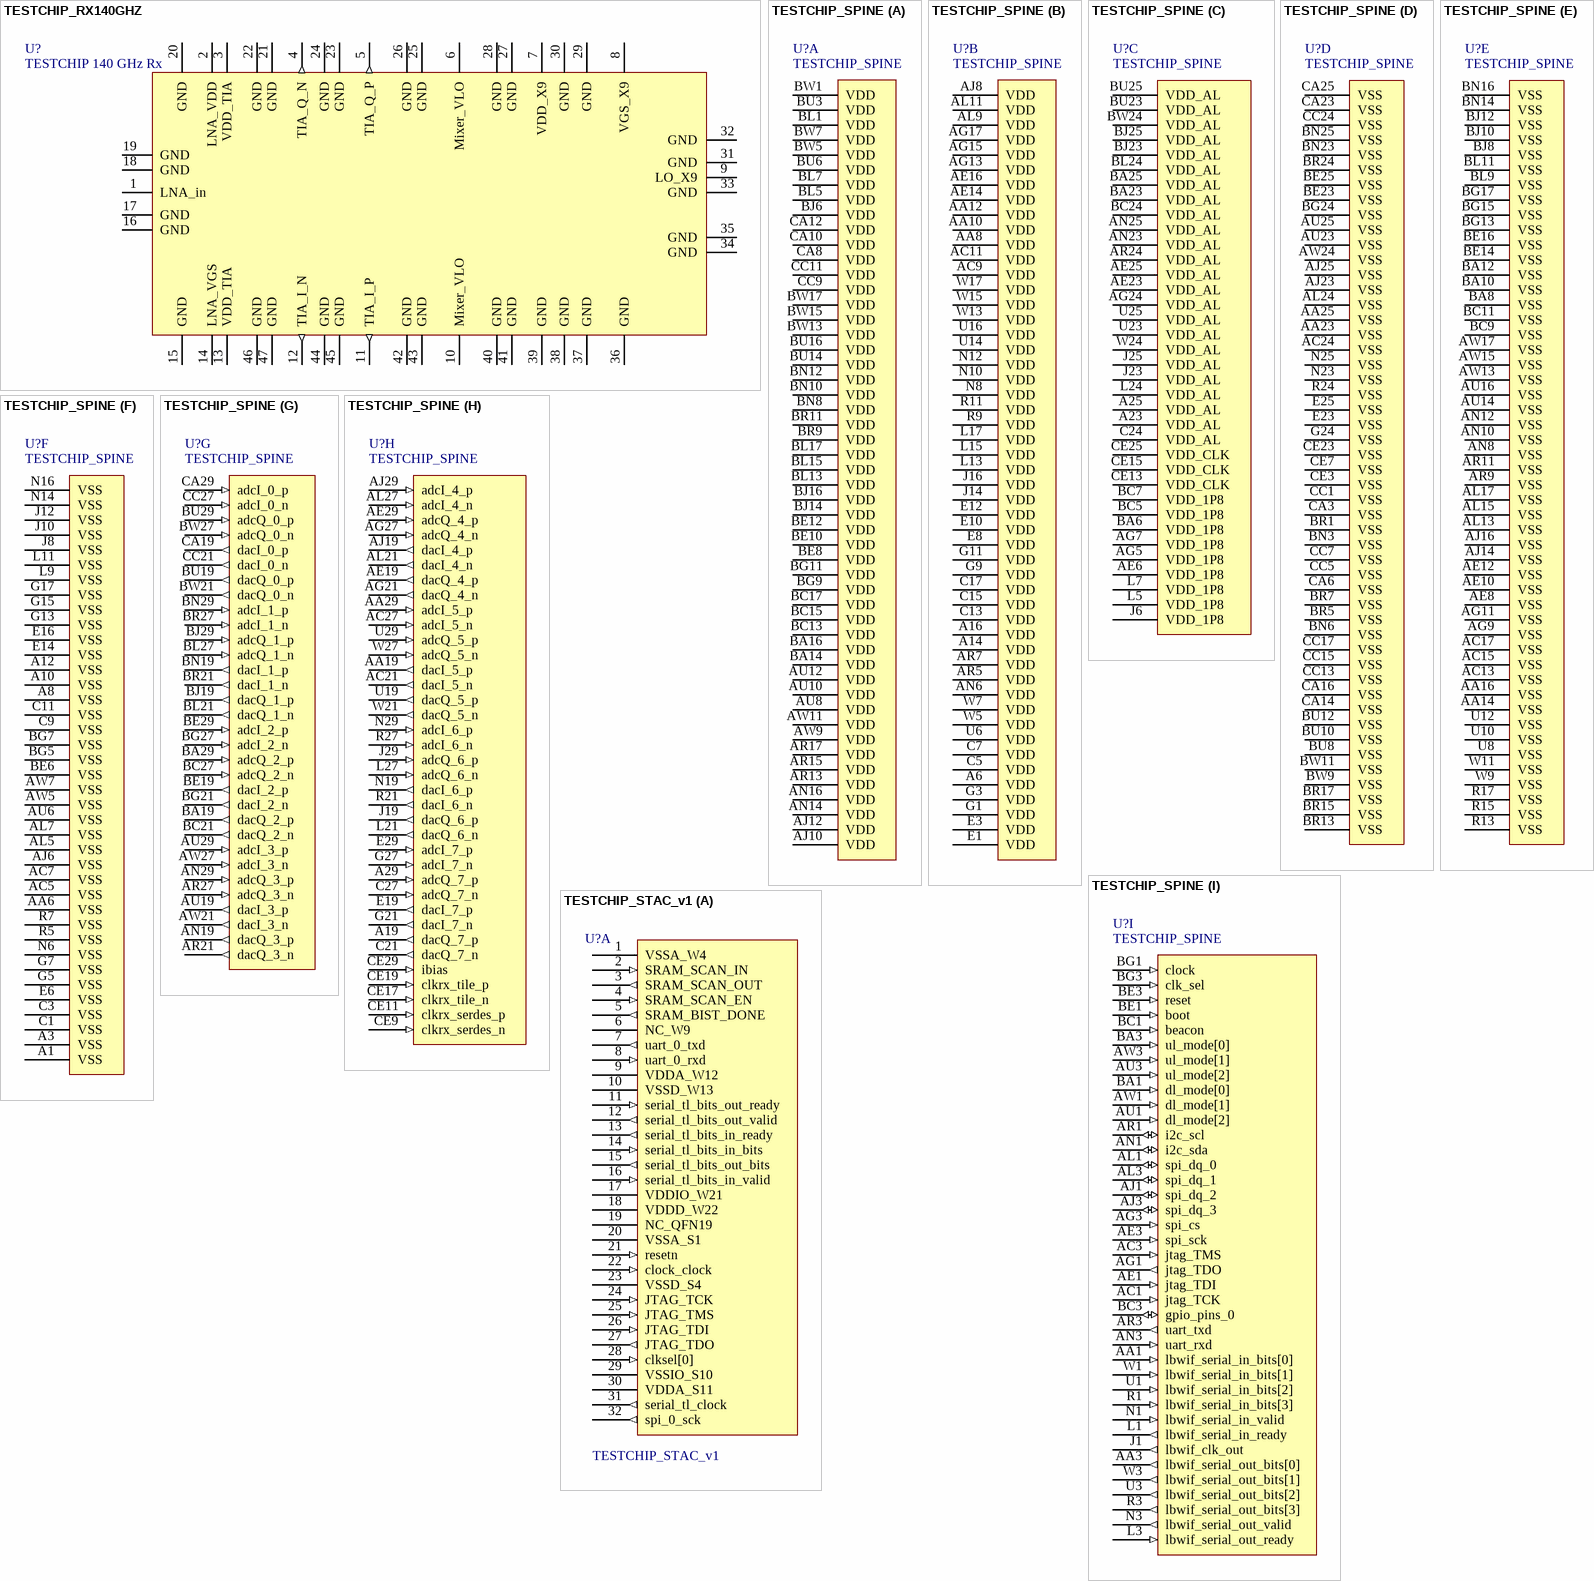
[diagram p21: symbols TESTCHIP_RX140GHZ to TESTCHIP_STAC_v1]

## TESTCHIP_RX140GHZ
designator U?, comment TESTCHIP 140 GHz Rx
TESTCHIP UCSB 140 GHz CMOS receiver die
pins: 1 LNA_in, 2 LNA_VDD (power), 3 VDD_TIA (power), 4 TIA_Q_N (out), 5 TIA_Q_P (out), 6 Mixer_VLO (power), 7 VDD_X9 (power), 8 VGS_X9 (power), 9 LO_X9, 10 Mixer_VLO (power), 11 TIA_I_P (out), 12 TIA_I_N (out), 13 VDD_TIA (power), 14 LNA_VGS (power), 15 GND (power), 16 GND (power), 17 GND (power), 18 GND (power), 19 GND (power), 20 GND (power), 21 GND (power), 22 GND (power), 23 GND (power), 24 GND (power), 25 GND (power), 26 GND (power), 27 GND (power), 28 GND (power), 29 GND (power), 30 GND (power), 31 GND (power), 32 GND (power), 33 GND (power), 34 GND (power), 35 GND (power), 36 GND (power), 37 GND (power), 38 GND (power), 39 GND (power), 40 GND (power), 41 GND (power), 42 GND (power), 43 GND (power), 44 GND (power), 45 GND (power), 46 GND (power), 47 GND (power)

## TESTCHIP_SPINE
designator U?
part A pins: AJ10 VDD (power), AJ12 VDD (power), AN14 VDD (power), AN16 VDD (power), AR13 VDD (power), AR15 VDD (power), AR17 VDD (power), AU8 VDD (power), AU10 VDD (power), AU12 VDD (power), AW9 VDD (power), AW11 VDD (power), BA14 VDD (power), BA16 VDD (power), BC13 VDD (power), BC15 VDD (power), BC17 VDD (power), BE8 VDD (power), BE10 VDD (power), BE12 VDD (power), BG9 VDD (power), BG11 VDD (power), BJ6 VDD (power), BJ14 VDD (power), BJ16 VDD (power), BL1 VDD (power), BL5 VDD (power), BL7 VDD (power), BL13 VDD (power), BL15 VDD (power), BL17 VDD (power), BN8 VDD (power), BN10 VDD (power), BN12 VDD (power), BR9 VDD (power), BR11 VDD (power), BU3 VDD (power), BU6 VDD (power), BU14 VDD (power), BU16 VDD (power), BW1 VDD (power), BW5 VDD (power), BW7 VDD (power), BW13 VDD (power), BW15 VDD (power), BW17 VDD (power), CA8 VDD (power), CA10 VDD (power), CA12 VDD (power), CC9 VDD (power), CC11 VDD (power)
part B pins: A6 VDD (power), A14 VDD (power), A16 VDD (power), AA8 VDD (power), AA10 VDD (power), AA12 VDD (power), AC9 VDD (power), AC11 VDD (power), AE14 VDD (power), AE16 VDD (power), AG13 VDD (power), AG15 VDD (power), AG17 VDD (power), AJ8 VDD (power), AL9 VDD (power), AL11 VDD (power), AN6 VDD (power), AR5 VDD (power), AR7 VDD (power), C5 VDD (power), C7 VDD (power), C13 VDD (power), C15 VDD (power), C17 VDD (power), E1 VDD (power), E3 VDD (power), E8 VDD (power), E10 VDD (power), E12 VDD (power), G1 VDD (power), G3 VDD (power), G9 VDD (power), G11 VDD (power), J14 VDD (power), J16 VDD (power), L13 VDD (power), L15 VDD (power), L17 VDD (power), N8 VDD (power), N10 VDD (power), N12 VDD (power), R9 VDD (power), R11 VDD (power), U6 VDD (power), U14 VDD (power), U16 VDD (power), W5 VDD (power), W7 VDD (power), W13 VDD (power), W15 VDD (power), W17 VDD (power)
part C pins: A23 VDD_AL (power), A25 VDD_AL (power), AE6 VDD_1P8 (power), AE23 VDD_AL (power), AE25 VDD_AL (power), AG5 VDD_1P8 (power), AG7 VDD_1P8 (power), AG24 VDD_AL (power), AN23 VDD_AL (power), AN25 VDD_AL (power), AR24 VDD_AL (power), BA6 VDD_1P8 (power), BA23 VDD_AL (power), BA25 VDD_AL (power), BC5 VDD_1P8 (power), BC7 VDD_1P8 (power), BC24 VDD_AL (power), BJ23 VDD_AL (power), BJ25 VDD_AL (power), BL24 VDD_AL (power), BU23 VDD_AL (power), BU25 VDD_AL (power), BW24 VDD_AL (power), C24 VDD_AL (power), CE13 VDD_CLK (power), CE15 VDD_CLK (power), CE25 VDD_CLK (power), J6 VDD_1P8 (power), J23 VDD_AL (power), J25 VDD_AL (power), L5 VDD_1P8 (power), L7 VDD_1P8 (power), L24 VDD_AL (power), U23 VDD_AL (power), U25 VDD_AL (power), W24 VDD_AL (power)
part D pins: AA23 VSS (power), AA25 VSS (power), AC24 VSS (power), AJ23 VSS (power), AJ25 VSS (power), AL24 VSS (power), AU23 VSS (power), AU25 VSS (power), AW24 VSS (power), BE23 VSS (power), BE25 VSS (power), BG24 VSS (power), BN3 VSS (power), BN6 VSS (power), BN23 VSS (power), BN25 VSS (power), BR1 VSS (power), BR5 VSS (power), BR7 VSS (power), BR13 VSS (power), BR15 VSS (power), BR17 VSS (power), BR24 VSS (power), BU8 VSS (power), BU10 VSS (power), BU12 VSS (power), BW9 VSS (power), BW11 VSS (power), CA3 VSS (power), CA6 VSS (power), CA14 VSS (power), CA16 VSS (power), CA23 VSS (power), CA25 VSS (power), CC1 VSS (power), CC5 VSS (power), CC7 VSS (power), CC13 VSS (power), CC15 VSS (power), CC17 VSS (power), CC24 VSS (power), CE3 VSS (power), CE7 VSS (power), CE23 VSS (power), E23 VSS (power), E25 VSS (power), G24 VSS (power), N23 VSS (power), N25 VSS (power), R24 VSS (power)
part E pins: AA14 VSS (power), AA16 VSS (power), AC13 VSS (power), AC15 VSS (power), AC17 VSS (power), AE8 VSS (power), AE10 VSS (power), AE12 VSS (power), AG9 VSS (power), AG11 VSS (power), AJ14 VSS (power), AJ16 VSS (power), AL13 VSS (power), AL15 VSS (power), AL17 VSS (power), AN8 VSS (power), AN10 VSS (power), AN12 VSS (power), AR9 VSS (power), AR11 VSS (power), AU14 VSS (power), AU16 VSS (power), AW13 VSS (power), AW15 VSS (power), AW17 VSS (power), BA8 VSS (power), BA10 VSS (power), BA12 VSS (power), BC9 VSS (power), BC11 VSS (power), BE14 VSS (power), BE16 VSS (power), BG13 VSS (power), BG15 VSS (power), BG17 VSS (power), BJ8 VSS (power), BJ10 VSS (power), BJ12 VSS (power), BL9 VSS (power), BL11 VSS (power), BN14 VSS (power), BN16 VSS (power), R13 VSS (power), R15 VSS (power), R17 VSS (power), U8 VSS (power), U10 VSS (power), U12 VSS (power), W9 VSS (power), W11 VSS (power)
part F pins: A1 VSS (power), A3 VSS (power), A8 VSS (power), A10 VSS (power), A12 VSS (power), AA6 VSS (power), AC5 VSS (power), AC7 VSS (power), AJ6 VSS (power), AL5 VSS (power), AL7 VSS (power), AU6 VSS (power), AW5 VSS (power), AW7 VSS (power), BE6 VSS (power), BG5 VSS (power), BG7 VSS (power), C1 VSS (power), C3 VSS (power), C9 VSS (power), C11 VSS (power), E6 VSS (power), E14 VSS (power), E16 VSS (power), G5 VSS (power), G7 VSS (power), G13 VSS (power), G15 VSS (power), G17 VSS (power), J8 VSS (power), J10 VSS (power), J12 VSS (power), L9 VSS (power), L11 VSS (power), N6 VSS (power), N14 VSS (power), N16 VSS (power), R5 VSS (power), R7 VSS (power)
part G pins: AN19 dacQ_3_p (out), AN29 adcQ_3_p (in), AR21 dacQ_3_n (out), AR27 adcQ_3_n (in), AU19 dacI_3_p (out), AU29 adcI_3_p (in), AW21 dacI_3_n (out), AW27 adcI_3_n (in), BA19 dacQ_2_p (out), BA29 adcQ_2_p (in), BC21 dacQ_2_n (out), BC27 adcQ_2_n (in), BE19 dacI_2_p (out), BE29 adcI_2_p (in), BG21 dacI_2_n (out), BG27 adcI_2_n (in), BJ19 dacQ_1_p (out), BJ29 adcQ_1_p (in), BL21 dacQ_1_n (out), BL27 adcQ_1_n (in), BN19 dacI_1_p (out), BN29 adcI_1_p (in), BR21 dacI_1_n (out), BR27 adcI_1_n (in), BU19 dacQ_0_p (out), BU29 adcQ_0_p (in), BW21 dacQ_0_n (out), BW27 adcQ_0_n (in), CA19 dacI_0_p (out), CA29 adcI_0_p (in), CC21 dacI_0_n (out), CC27 adcI_0_n (in)
part H pins: A19 dacQ_7_p (out), A29 adcQ_7_p (in), AA19 dacI_5_p (out), AA29 adcI_5_p (in), AC21 dacI_5_n (out), AC27 adcI_5_n (in), AE19 dacQ_4_p (out), AE29 adcQ_4_p (in), AG21 dacQ_4_n (out), AG27 adcQ_4_n (in), AJ19 dacI_4_p (out), AJ29 adcI_4_p (in), AL21 dacI_4_n (out), AL27 adcI_4_n (in), C21 dacQ_7_n (out), C27 adcQ_7_n (in), CE9 clkrx_serdes_n (in), CE11 clkrx_serdes_p (in), CE17 clkrx_tile_n (in), CE19 clkrx_tile_p (in), CE29 ibias (in), E19 dacI_7_p (out), E29 adcI_7_p (in), G21 dacI_7_n (out), G27 adcI_7_n (in), J19 dacQ_6_p (out), J29 adcQ_6_p (in), L21 dacQ_6_n (out), L27 adcQ_6_n (in), N19 dacI_6_p (out), N29 adcI_6_p (in), R21 dacI_6_n (out), R27 adcI_6_n (in), U19 dacQ_5_p (out), U29 adcQ_5_p (in), W21 dacQ_5_n (out), W27 adcQ_5_n (in)
part I pins: AA1 lbwif_serial_in_bits[0] (in), AA3 lbwif_serial_out_bits[0] (out), AC1 jtag_TCK (in), AC3 jtag_TMS (in), AE1 jtag_TDI (in), AE3 spi_sck (in), AG1 jtag_TDO (out), AG3 spi_cs (in), AJ1 spi_dq_2 (io), AJ3 spi_dq_3 (io), AL1 spi_dq_0 (io), AL3 spi_dq_1 (io), AN1 i2c_sda (io), AN3 uart_rxd (in), AR1 i2c_scl (io), AR3 uart_txd (out), AU1 dl_mode[2] (in), AU3 ul_mode[2] (in), AW1 dl_mode[1] (in), AW3 ul_mode[1] (in), BA1 dl_mode[0] (in), BA3 ul_mode[0] (in), BC1 beacon (in), BC3 gpio_pins_0 (io), BE1 boot (in), BE3 reset (in), BG1 clock (in), BG3 clk_sel (in), J1 lbwif_clk_out (out), L1 lbwif_serial_in_ready (out), L3 lbwif_serial_out_ready (in), N1 lbwif_serial_in_valid (in), N3 lbwif_serial_out_valid (out), R1 lbwif_serial_in_bits[3] (in), R3 lbwif_serial_out_bits[3] (out), U1 lbwif_serial_in_bits[2] (in), U3 lbwif_serial_out_bits[2] (out), W1 lbwif_serial_in_bits[1] (in), W3 lbwif_serial_out_bits[1] (out)

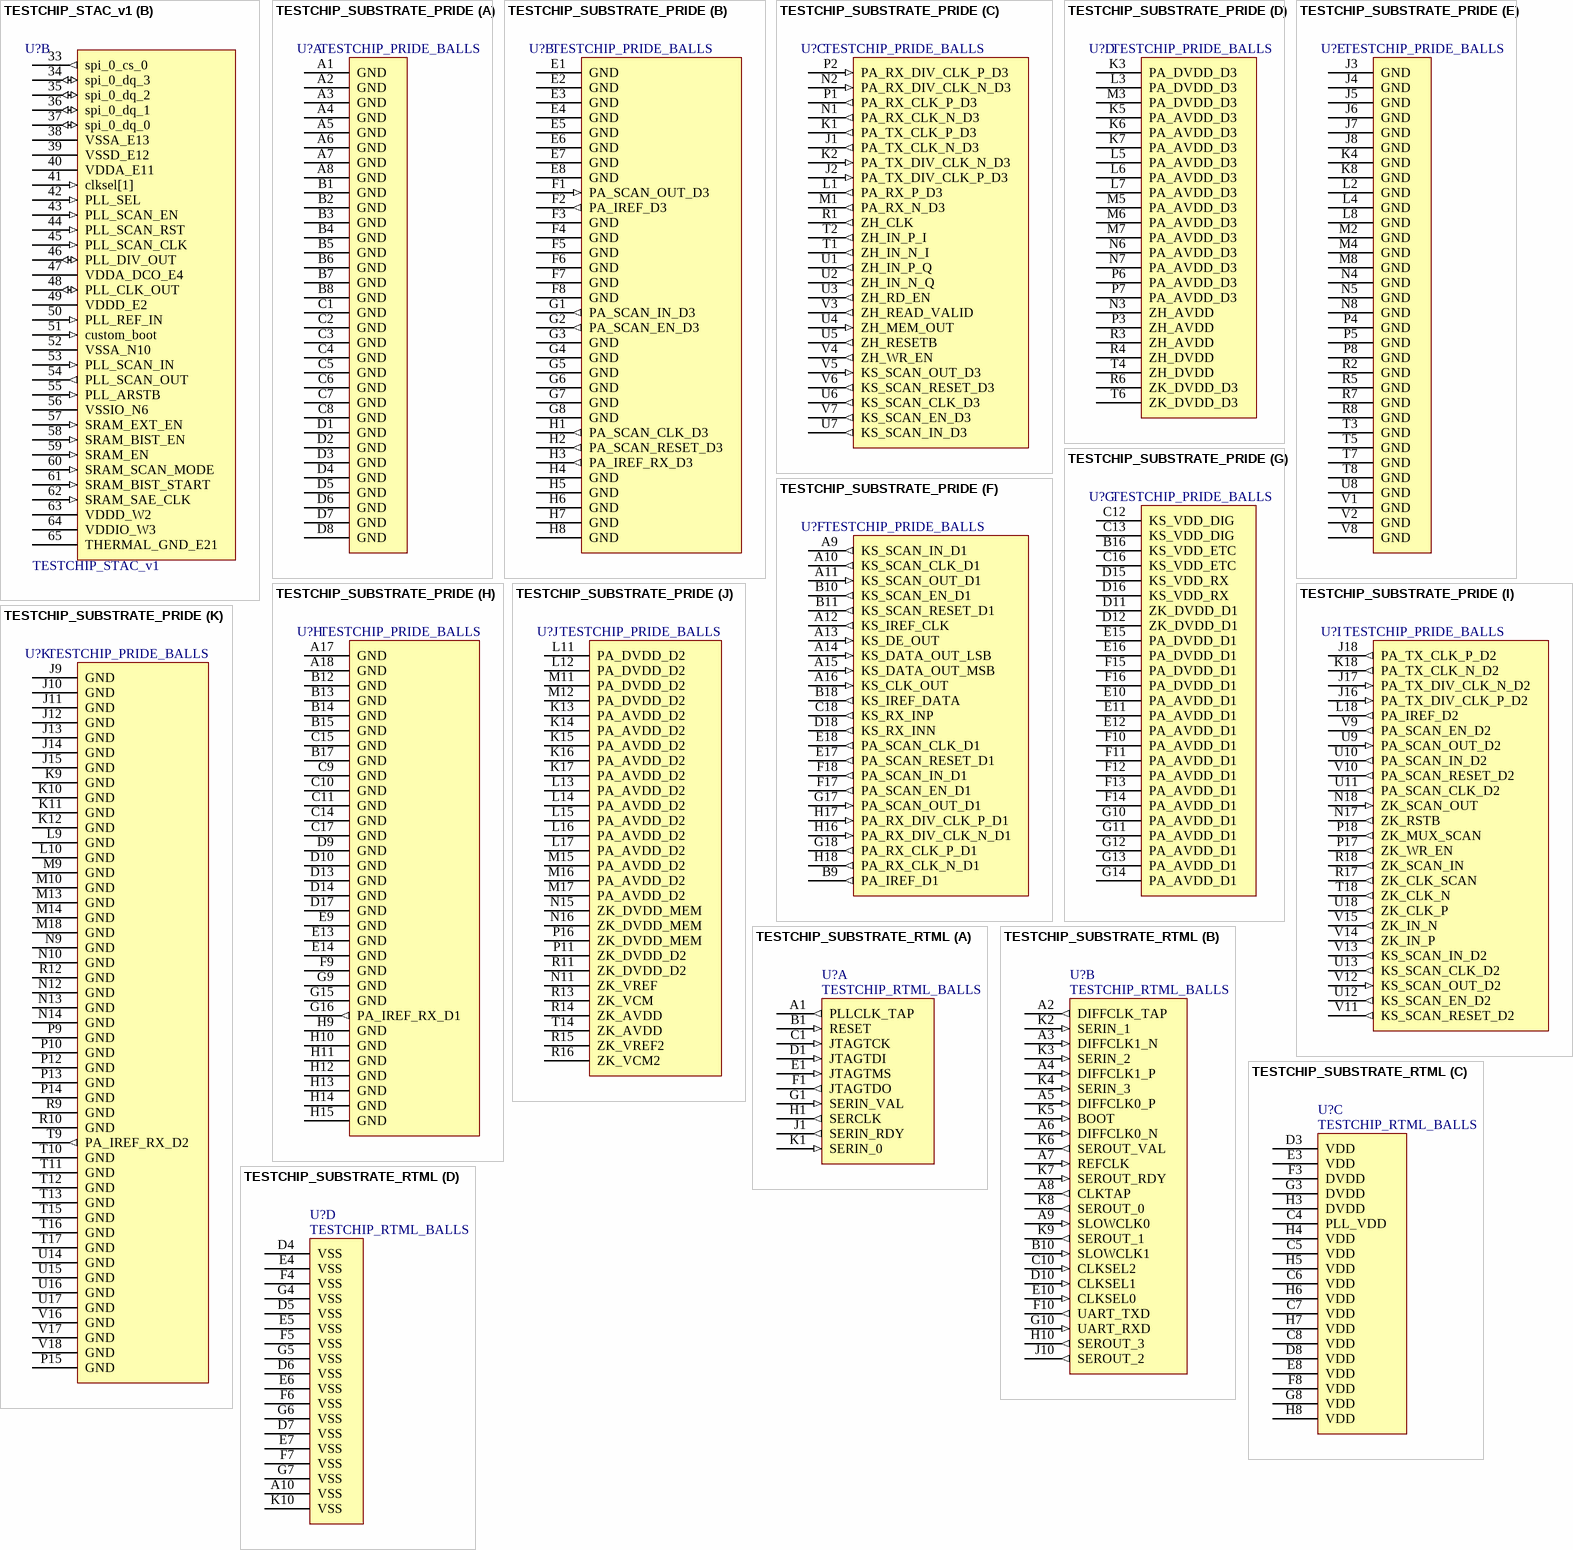
[diagram p22: symbols TESTCHIP_STAC_v1 to TESTCHIP_SUBSTRATE_RTML]

## TESTCHIP_STAC_v1
designator U?
TESTCHIP STAC v1
part A pins: 1 VSSA_W4 (power), 2 SRAM_SCAN_IN (in), 3 SRAM_SCAN_OUT (out), 4 SRAM_SCAN_EN (in), 5 SRAM_BIST_DONE (out), 6 NC_W9 (hiz), 7 uart_0_txd (out), 8 uart_0_rxd (in), 9 VDDA_W12 (power), 10 VSSD_W13 (power), 11 serial_tl_bits_out_ready (in), 12 serial_tl_bits_out_valid (out), 13 serial_tl_bits_in_ready (out), 14 serial_tl_bits_in_bits (in), 15 serial_tl_bits_out_bits (out), 16 serial_tl_bits_in_valid (in), 17 VDDIO_W21 (power), 18 VDDD_W22 (power), 19 NC_QFN19 (hiz), 20 VSSA_S1 (power), 21 resetn (in), 22 clock_clock (in), 23 VSSD_S4 (power), 24 JTAG_TCK (in), 25 JTAG_TMS (in), 26 JTAG_TDI (in), 27 JTAG_TDO (out), 28 clksel[0] (in), 29 VSSIO_S10 (power), 30 VDDA_S11 (power), 31 serial_tl_clock (out), 32 spi_0_sck (out)
part B pins: 33 spi_0_cs_0 (out), 34 spi_0_dq_3 (io), 35 spi_0_dq_2 (io), 36 spi_0_dq_1 (io), 37 spi_0_dq_0 (io), 38 VSSA_E13 (power), 39 VSSD_E12 (power), 40 VDDA_E11 (power), 41 clksel[1] (in), 42 PLL_SEL (in), 43 PLL_SCAN_EN (in), 44 PLL_SCAN_RST (in), 45 PLL_SCAN_CLK (in), 46 PLL_DIV_OUT (io), 47 VDDA_DCO_E4 (power), 48 PLL_CLK_OUT (io), 49 VDDD_E2 (power), 50 PLL_REF_IN (in), 51 custom_boot (in), 52 VSSA_N10 (power), 53 PLL_SCAN_IN (in), 54 PLL_SCAN_OUT (out), 55 PLL_ARSTB (in), 56 VSSIO_N6 (power), 57 SRAM_EXT_EN (in), 58 SRAM_BIST_EN (in), 59 SRAM_EN (in), 60 SRAM_SCAN_MODE (in), 61 SRAM_BIST_START (in), 62 SRAM_SAE_CLK (in), 63 VDDD_W2 (power), 64 VDDIO_W3 (power), 65 THERMAL_GND_E21 (power)

## TESTCHIP_SUBSTRATE_PRIDE
designator U?, comment TESTCHIP_PRIDE_BALLS
BGA package (PRIDE)
footprint PACKAGE_PRIDE
part A pins: A1 GND (power), A2 GND (power), A3 GND (power), A4 GND (power), A5 GND (power), A6 GND (power), A7 GND (power), A8 GND (power), B1 GND (power), B2 GND (power), B3 GND (power), B4 GND (power), B5 GND (power), B6 GND (power), B7 GND (power), B8 GND (power), C1 GND (power), C2 GND (power), C3 GND (power), C4 GND (power), C5 GND (power), C6 GND (power), C7 GND (power), C8 GND (power), D1 GND (power), D2 GND (power), D3 GND (power), D4 GND (power), D5 GND (power), D6 GND (power), D7 GND (power), D8 GND (power)
part B pins: E1 GND (power), E2 GND (power), E3 GND (power), E4 GND (power), E5 GND (power), E6 GND (power), E7 GND (power), E8 GND (power), F1 PA_SCAN_OUT_D3 (in), F2 PA_IREF_D3 (out), F3 GND (power), F4 GND (power), F5 GND (power), F6 GND (power), F7 GND (power), F8 GND (power), G1 PA_SCAN_IN_D3 (out), G2 PA_SCAN_EN_D3 (out), G3 GND (power), G4 GND (power), G5 GND (power), G6 GND (power), G7 GND (power), G8 GND (power), H1 PA_SCAN_CLK_D3 (out), H2 PA_SCAN_RESET_D3 (out), H3 PA_IREF_RX_D3 (out), H4 GND (power), H5 GND (power), H6 GND (power), H7 GND (power), H8 GND (power)
part C pins: J1 PA_TX_CLK_N_D3 (out), J2 PA_TX_DIV_CLK_P_D3 (in), K1 PA_TX_CLK_P_D3 (out), K2 PA_TX_DIV_CLK_N_D3 (in), L1 PA_RX_P_D3 (out), M1 PA_RX_N_D3 (out), N1 PA_RX_CLK_N_D3 (out), N2 PA_RX_DIV_CLK_N_D3 (in), P1 PA_RX_CLK_P_D3 (out), P2 PA_RX_DIV_CLK_P_D3 (in), R1 ZH_CLK (out), T1 ZH_IN_N_I (out), T2 ZH_IN_P_I (out), U1 ZH_IN_P_Q (out), U2 ZH_IN_N_Q (out), U3 ZH_RD_EN (out), U4 ZH_MEM_OUT (in), U5 ZH_RESETB (out), U6 KS_SCAN_CLK_D3 (out), U7 KS_SCAN_IN_D3 (out), V3 ZH_READ_VALID (out), V4 ZH_WR_EN (out), V5 KS_SCAN_OUT_D3 (in), V6 KS_SCAN_RESET_D3 (out), V7 KS_SCAN_EN_D3 (out)
part D pins: K3 PA_DVDD_D3 (power), K5 PA_AVDD_D3 (power), K6 PA_AVDD_D3 (power), K7 PA_AVDD_D3 (power), L3 PA_DVDD_D3 (power), L5 PA_AVDD_D3 (power), L6 PA_AVDD_D3 (power), L7 PA_AVDD_D3 (power), M3 PA_DVDD_D3 (power), M5 PA_AVDD_D3 (power), M6 PA_AVDD_D3 (power), M7 PA_AVDD_D3 (power), N3 ZH_AVDD (power), N6 PA_AVDD_D3 (power), N7 PA_AVDD_D3 (power), P3 ZH_AVDD (power), P6 PA_AVDD_D3 (power), P7 PA_AVDD_D3 (power), R3 ZH_AVDD (power), R4 ZH_DVDD (power), R6 ZK_DVDD_D3 (power), T4 ZH_DVDD (power), T6 ZK_DVDD_D3 (power)
part E pins: J3 GND (power), J4 GND (power), J5 GND (power), J6 GND (power), J7 GND (power), J8 GND (power), K4 GND (power), K8 GND (power), L2 GND (power), L4 GND (power), L8 GND (power), M2 GND (power), M4 GND (power), M8 GND (power), N4 GND (power), N5 GND (power), N8 GND (power), P4 GND (power), P5 GND (power), P8 GND (power), R2 GND (power), R5 GND (power), R7 GND (power), R8 GND (power), T3 GND (power), T5 GND (power), T7 GND (power), T8 GND (power), U8 GND (power), V1 GND (power), V2 GND (power), V8 GND (power)
part F pins: A9 KS_SCAN_IN_D1 (out), A10 KS_SCAN_CLK_D1 (out), A11 KS_SCAN_OUT_D1 (in), A12 KS_IREF_CLK (out), A13 KS_DE_OUT (in), A14 KS_DATA_OUT_LSB (in), A15 KS_DATA_OUT_MSB (in), A16 KS_CLK_OUT (in), B9 PA_IREF_D1 (out), B10 KS_SCAN_EN_D1 (out), B11 KS_SCAN_RESET_D1 (out), B18 KS_IREF_DATA (out), C18 KS_RX_INP (out), D18 KS_RX_INN (out), E17 PA_SCAN_RESET_D1 (out), E18 PA_SCAN_CLK_D1 (out), F17 PA_SCAN_EN_D1 (out), F18 PA_SCAN_IN_D1 (out), G17 PA_SCAN_OUT_D1 (in), G18 PA_RX_CLK_P_D1 (out), H16 PA_RX_DIV_CLK_N_D1 (in), H17 PA_RX_DIV_CLK_P_D1 (in), H18 PA_RX_CLK_N_D1 (out)
part G pins: B16 KS_VDD_ETC (power), C12 KS_VDD_DIG (power), C13 KS_VDD_DIG (power), C16 KS_VDD_ETC (power), D11 ZK_DVDD_D1 (power), D12 ZK_DVDD_D1 (power), D15 KS_VDD_RX (power), D16 KS_VDD_RX (power), E10 PA_AVDD_D1 (power), E11 PA_AVDD_D1 (power), E12 PA_AVDD_D1 (power), E15 PA_DVDD_D1 (power), E16 PA_DVDD_D1 (power), F10 PA_AVDD_D1 (power), F11 PA_AVDD_D1 (power), F12 PA_AVDD_D1 (power), F13 PA_AVDD_D1 (power), F14 PA_AVDD_D1 (power), F15 PA_DVDD_D1 (power), F16 PA_DVDD_D1 (power), G10 PA_AVDD_D1 (power), G11 PA_AVDD_D1 (power), G12 PA_AVDD_D1 (power), G13 PA_AVDD_D1 (power), G14 PA_AVDD_D1 (power)
part H pins: A17 GND (power), A18 GND (power), B12 GND (power), B13 GND (power), B14 GND (power), B15 GND (power), B17 GND (power), C9 GND (power), C10 GND (power), C11 GND (power), C14 GND (power), C15 GND (power), C17 GND (power), D9 GND (power), D10 GND (power), D13 GND (power), D14 GND (power), D17 GND (power), E9 GND (power), E13 GND (power), E14 GND (power), F9 GND (power), G9 GND (power), G15 GND (power), G16 PA_IREF_RX_D1 (out), H9 GND (power), H10 GND (power), H11 GND (power), H12 GND (power), H13 GND (power), H14 GND (power), H15 GND (power)
part I pins: J16 PA_TX_DIV_CLK_P_D2 (in), J17 PA_TX_DIV_CLK_N_D2 (in), J18 PA_TX_CLK_P_D2 (out), K18 PA_TX_CLK_N_D2 (out), L18 PA_IREF_D2 (out), N17 ZK_RSTB (out), N18 ZK_SCAN_OUT (in), P17 ZK_WR_EN (out), P18 ZK_MUX_SCAN (out), R17 ZK_CLK_SCAN (out), R18 ZK_SCAN_IN (out), T18 ZK_CLK_N (out), U9 PA_SCAN_OUT_D2 (in), U10 PA_SCAN_IN_D2 (out), U11 PA_SCAN_CLK_D2 (out), U12 KS_SCAN_EN_D2 (out), U13 KS_SCAN_CLK_D2 (out), U18 ZK_CLK_P (out), V9 PA_SCAN_EN_D2 (out), V10 PA_SCAN_RESET_D2 (out), V11 KS_SCAN_RESET_D2 (out), V12 KS_SCAN_OUT_D2 (in), V13 KS_SCAN_IN_D2 (out), V14 ZK_IN_P (out), V15 ZK_IN_N (out)
part J pins: K13 PA_AVDD_D2 (power), K14 PA_AVDD_D2 (power), K15 PA_AVDD_D2 (power), K16 PA_AVDD_D2 (power), K17 PA_AVDD_D2 (power), L11 PA_DVDD_D2 (power), L12 PA_DVDD_D2 (power), L13 PA_AVDD_D2 (power), L14 PA_AVDD_D2 (power), L15 PA_AVDD_D2 (power), L16 PA_AVDD_D2 (power), L17 PA_AVDD_D2 (power), M11 PA_DVDD_D2 (power), M12 PA_DVDD_D2 (power), M15 PA_AVDD_D2 (power), M16 PA_AVDD_D2 (power), M17 PA_AVDD_D2 (power), N11 ZK_VREF (power), N15 ZK_DVDD_MEM (power), N16 ZK_DVDD_MEM (power), P11 ZK_DVDD_D2 (power), P16 ZK_DVDD_MEM (power), R11 ZK_DVDD_D2 (power), R13 ZK_VCM (power), R14 ZK_AVDD (power), R15 ZK_VREF2 (power), R16 ZK_VCM2 (power), T14 ZK_AVDD (power)
part K pins: J9 GND (power), J10 GND (power), J11 GND (power), J12 GND (power), J13 GND (power), J14 GND (power), J15 GND (power), K9 GND (power), K10 GND (power), K11 GND (power), K12 GND (power), L9 GND (power), L10 GND (power), M9 GND (power), M10 GND (power), M13 GND (power), M14 GND (power), M18 GND (power), N9 GND (power), N10 GND (power), N12 GND (power), N13 GND (power), N14 GND (power), P9 GND (power), P10 GND (power), P12 GND (power), P13 GND (power), P14 GND (power), P15 GND (power), R9 GND (power), R10 GND (power), R12 GND (power), T9 PA_IREF_RX_D2 (out), T10 GND (power), T11 GND (power), T12 GND (power), T13 GND (power), T15 GND (power), T16 GND (power), T17 GND (power), U14 GND (power), U15 GND (power), U16 GND (power), U17 GND (power), V16 GND (power), V17 GND (power), V18 GND (power)

## TESTCHIP_SUBSTRATE_RTML
designator U?, comment TESTCHIP_RTML_BALLS
BGA package (RTML)
part A pins: A1 PLLCLK_TAP (out), B1 RESET (in), C1 JTAGTCK (in), D1 JTAGTDI (in), E1 JTAGTMS (in), F1 JTAGTDO (out), G1 SERIN_VAL (in), H1 SERCLK (out), J1 SERIN_RDY (out), K1 SERIN_0 (in)
part B pins: A2 DIFFCLK_TAP (out), A3 DIFFCLK1_N (in), A4 DIFFCLK1_P (in), A5 DIFFCLK0_P (in), A6 DIFFCLK0_N (in), A7 REFCLK (in), A8 CLKTAP (out), A9 SLOWCLK0 (in), B10 SLOWCLK1 (in), C10 CLKSEL2 (in), D10 CLKSEL1 (in), E10 CLKSEL0 (in), F10 UART_TXD (out), G10 UART_RXD (in), H10 SEROUT_3 (out), J10 SEROUT_2 (out), K2 SERIN_1 (in), K3 SERIN_2 (in), K4 SERIN_3 (in), K5 BOOT (in), K6 SEROUT_VAL (out), K7 SEROUT_RDY (in), K8 SEROUT_0 (out), K9 SEROUT_1 (out)
part C pins: C4 PLL_VDD (power), C5 VDD (power), C6 VDD (power), C7 VDD (power), C8 VDD (power), D3 VDD (power), D8 VDD (power), E3 VDD (power), E8 VDD (power), F3 DVDD (power), F8 VDD (power), G3 DVDD (power), G8 VDD (power), H3 DVDD (power), H4 VDD (power), H5 VDD (power), H6 VDD (power), H7 VDD (power), H8 VDD (power)
part D pins: A10 VSS (power), D4 VSS (power), D5 VSS (power), D6 VSS (power), D7 VSS (power), E4 VSS (power), E5 VSS (power), E6 VSS (power), E7 VSS (power), F4 VSS (power), F5 VSS (power), F6 VSS (power), F7 VSS (power), G4 VSS (power), G5 VSS (power), G6 VSS (power), G7 VSS (power), K10 VSS (power)

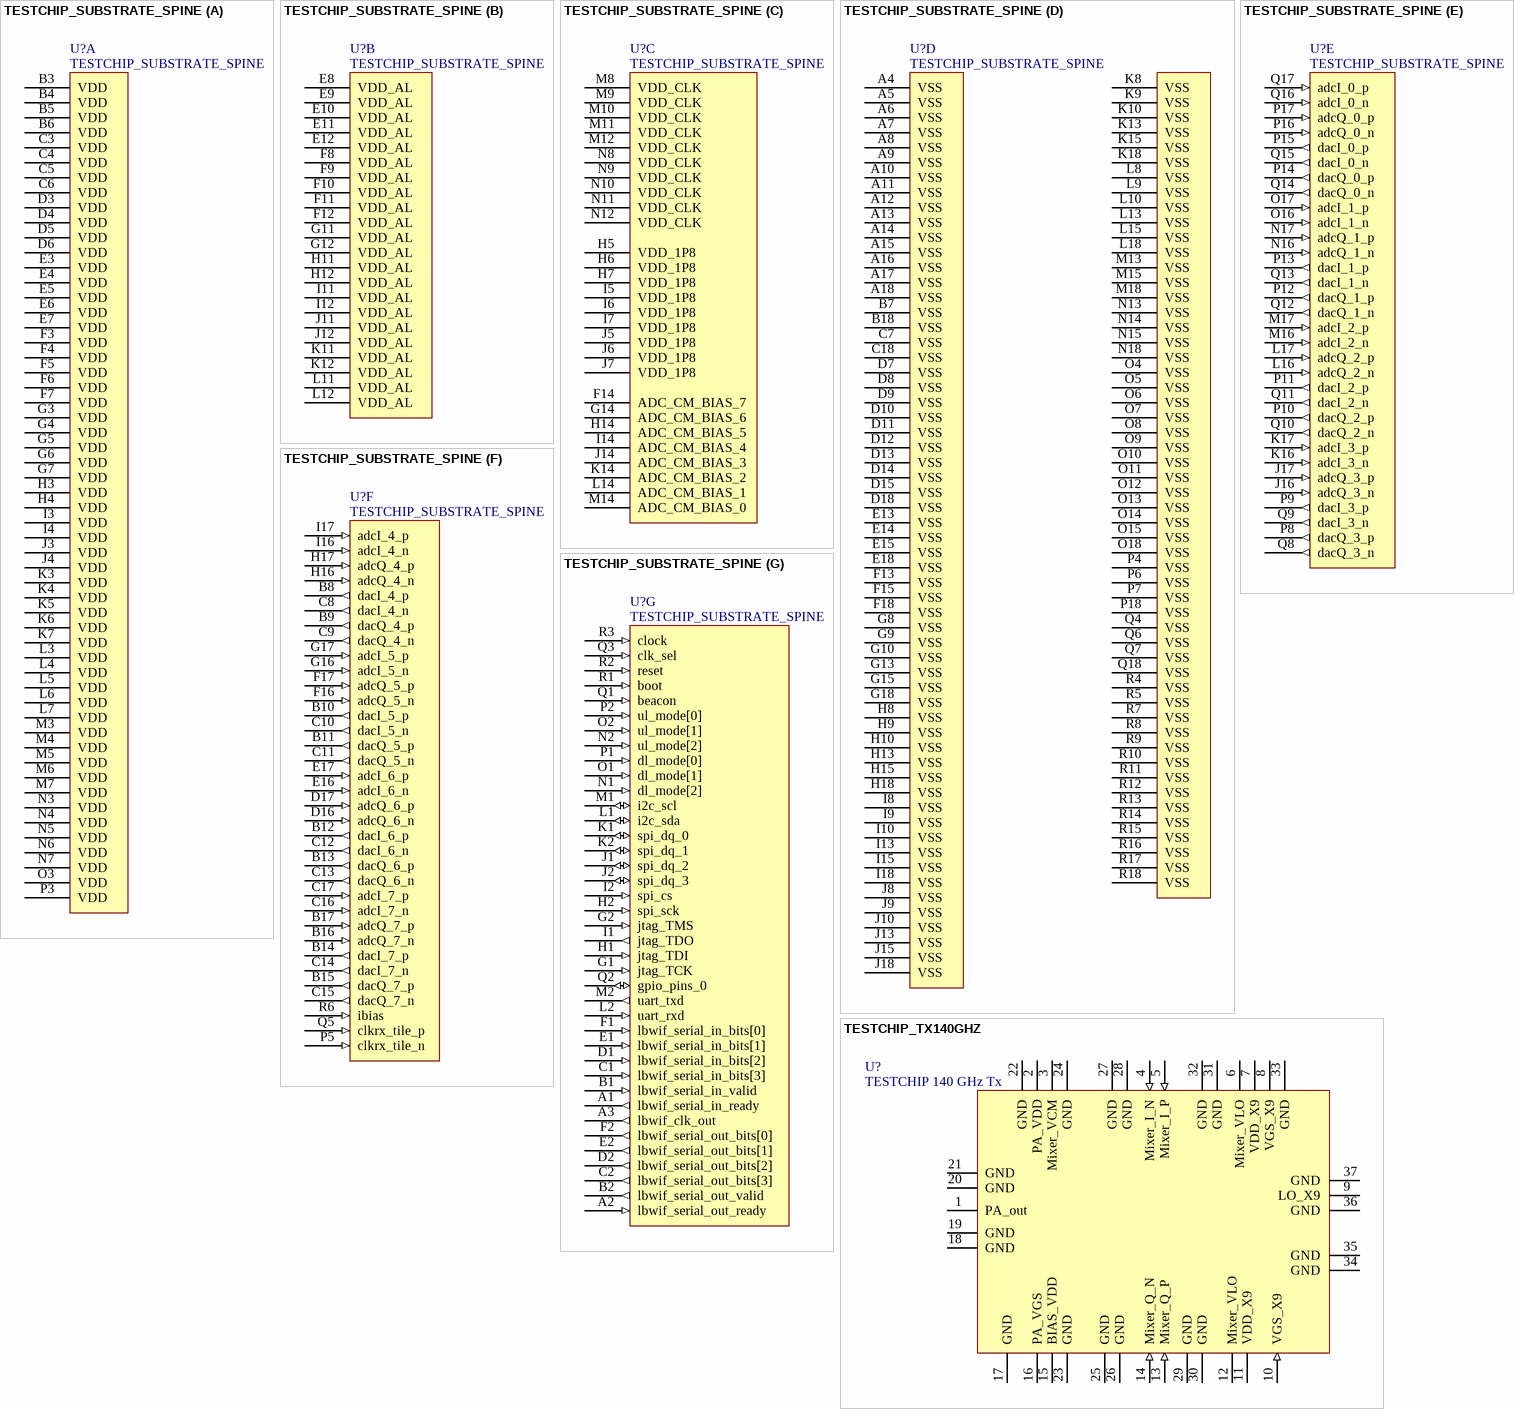
[diagram p23: symbols TESTCHIP_SUBSTRATE_SPINE to TESTCHIP_TX140GHZ]